# Altium integrated library Renesas Microcontroller M16C.IntLib: 423 symbols (part 7 of 30)
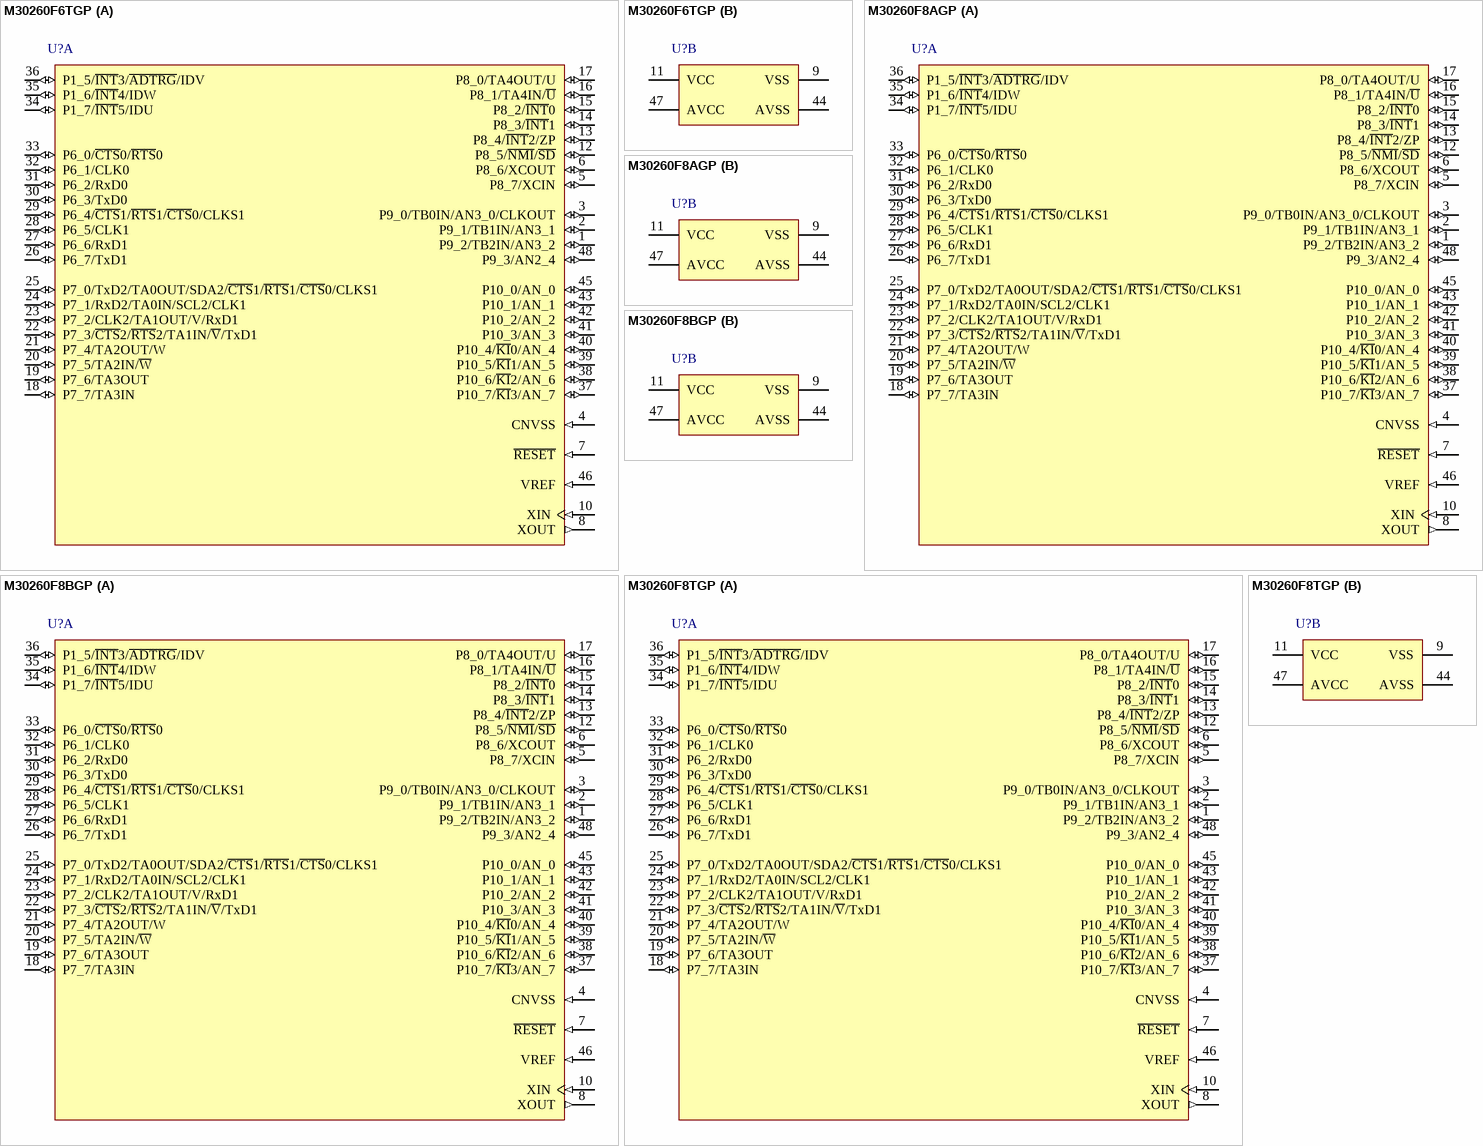
[diagram p192: symbols M30260F6TGP to M30260F8TGP]

## M30260F8TGP
designator U?
Flash Memory M16C/Tiny Series, 26T Group MCU, 64K + 4K ROM, 2K RAM, 48-pin LQFP, Version T; Note: Set bits PACR2 to PACR0 in PACR register.  If PACR register isn't set up, input & output function of some pins disabled.; Published: 28-Aug-2009; DatasheetVersion: Rev.2.00, Feb-2007; PackageVersion: Oct-2005; PackageReference: PLQP0048KB-A; Publisher: Altium Limited; PackageDescription: 48-Pin Plastic Low Profile QFP, 7 x 7 x 1.4 mm Body, 0.5 mm Pitch; Supplier 1: Digi-Key; Supplier Part Number 1: M30260F8TGP-ND; Code_JEITA: P-LQFP48-7x7-0.50; Code_IPC: SQFP50P900X900-48; ComponentLink1Description: Manufacturer Link; ComponentLink1URL: http://sg.renesas.com/fmwk.jsp?cnt=m16c_family_landing.jsp&fp=/products/mpumcu/m16c_family/; ComponentLink2Description: Datasheet; ComponentLink2URL: http://documentation.renesas.com/eng/products/mpumcu/rej09b0202_16c26ahm.pdf; ComponentLink3Description: Packaging Specification; ComponentLink3URL: http://sg.renesas.com/media/products/common_info/package/pdf/ic/code/plqp0048kb_a.pdf
footprint PLQP0048KB-A_N (Shrink QFP, 48-Leads, Body 7x7mm, Pitch 0.5mm, IPC Medium Density)
footprint PLQP0048KB-A_L (Shrink QFP, 48-Leads, Body 7x7mm, Pitch 0.5mm, IPC High Density)
footprint PLQP0048KB-A_M (Shrink QFP, 48-Leads, Body 7x7mm, Pitch 0.5mm, IPC Low Density)
part A pins: 1 P9_2/TB2IN/AN3_2 (io), 2 P9_1/TB1IN/AN3_1 (io), 3 P9_0/TB0IN/AN3_0/CLKOUT (io), 4 CNVSS (in), 5 P8_7/XCIN (io), 6 P8_6/XCOUT (io), 7 ~{RESET} (in), 8 XOUT (out), 10 XIN (in), 12 P8_5/~{NMI}/~{SD} (io), 13 P8_4/~{INT}2/ZP (io), 14 P8_3/~{INT}1 (io), 15 P8_2/~{INT}0 (io), 16 P8_1/TA4IN/~{U} (io), 17 P8_0/TA4OUT/U (io), 18 P7_7/TA3IN (io), 19 P7_6/TA3OUT (io), 20 P7_5/TA2IN/~{W} (io), 21 P7_4/TA2OUT/W (io), 22 P7_3/~{CTS}2/~{RTS}2/TA1IN/~{V}/TxD1 (io), 23 P7_2/CLK2/TA1OUT/V/RxD1 (io), 24 P7_1/RxD2/TA0IN/SCL2/CLK1 (io), 25 P7_0/TxD2/TA0OUT/SDA2/~{CTS}1/~{RTS}1/~{CTS}0/CLKS1 (io), 26 P6_7/TxD1 (io), 27 P6_6/RxD1 (io), 28 P6_5/CLK1 (io), 29 P6_4/~{CTS}1/~{RTS}1/~{CTS}0/CLKS1 (io), 30 P6_3/TxD0 (io), 31 P6_2/RxD0 (io), 32 P6_1/CLK0 (io), 33 P6_0/~{CTS}0/~{RTS}0 (io), 34 P1_7/~{INT}5/IDU (io), 35 P1_6/~{INT}4/IDW (io), 36 P1_5/~{INT}3/~{ADTRG}/IDV (io), 37 P10_7/~{KI}3/AN_7 (io), 38 P10_6/~{KI}2/AN_6 (io), 39 P10_5/~{KI}1/AN_5 (io), 40 P10_4/~{KI}0/AN_4 (io), 41 P10_3/AN_3 (io), 42 P10_2/AN_2 (io), 43 P10_1/AN_1 (io), 45 P10_0/AN_0 (io), 46 VREF (in), 48 P9_3/AN2_4 (io)
part B pins: 9 VSS (power), 11 VCC (power), 44 AVSS (power), 47 AVCC (power)

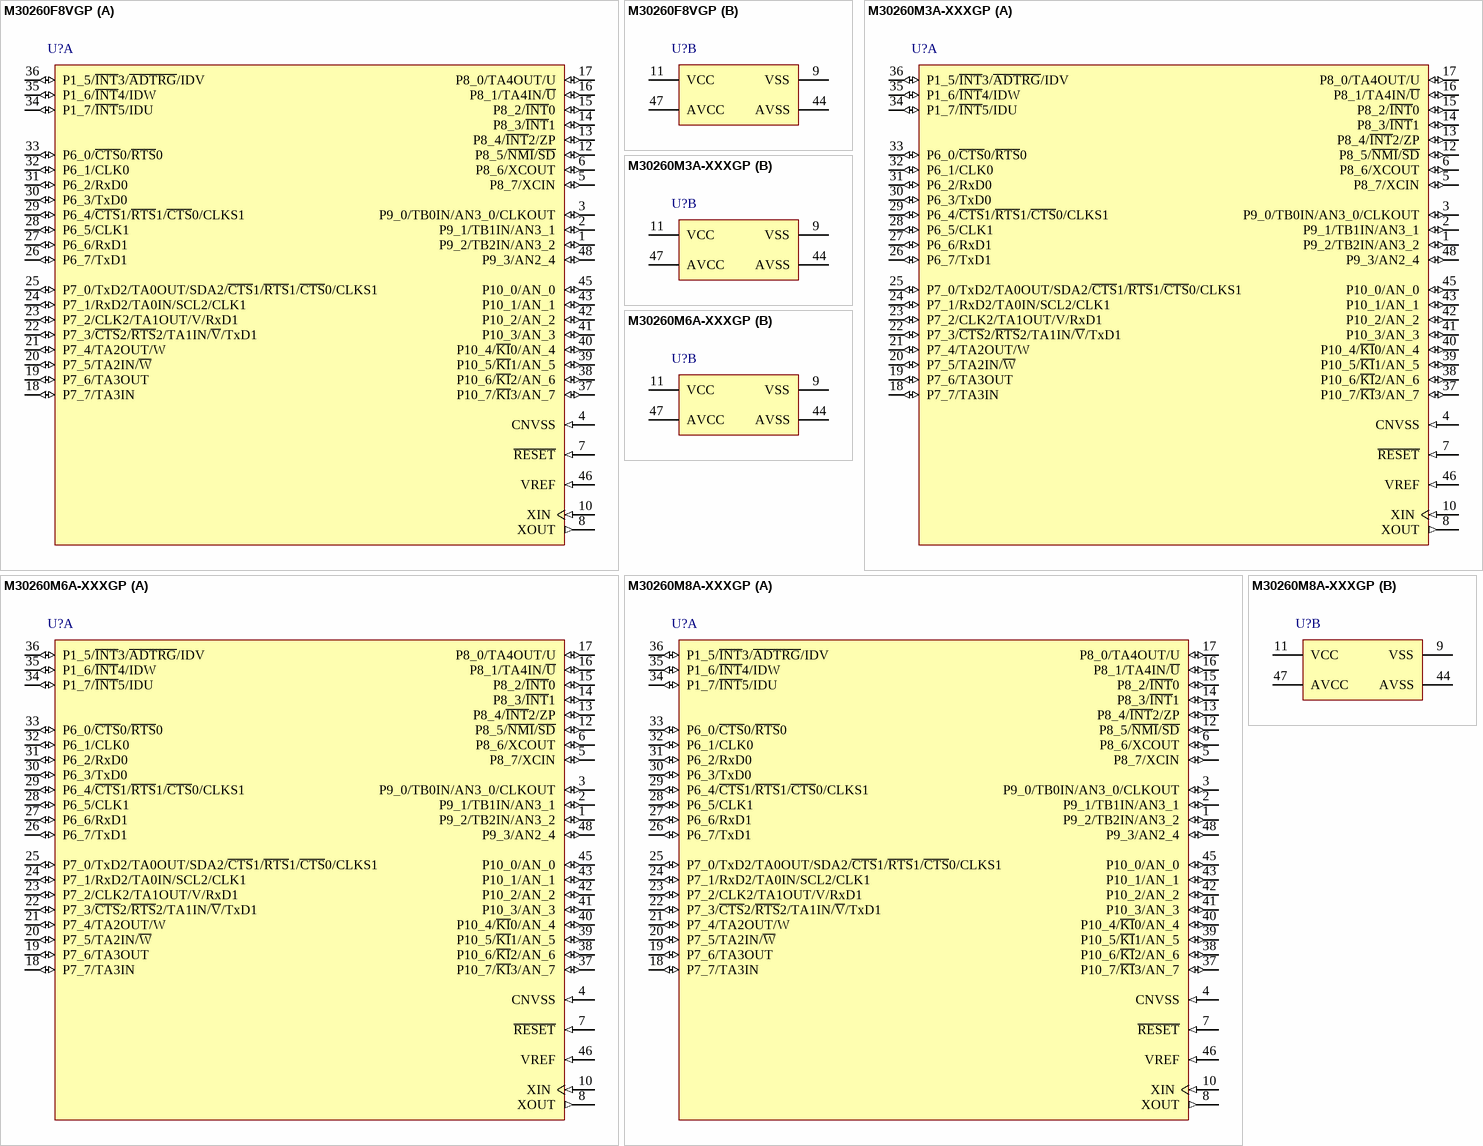
[diagram p39: symbols M30260F8VGP to M30260M8A-XXXGP]

## M30260F8VGP
designator U?
Flash Memory M16C/Tiny Series, 26T Group MCU, 64K + 4K ROM, 2K RAM, 48-pin LQFP, Version V; Note: Set bits PACR2 to PACR0 in PACR register.  If PACR register isn't set up, input & output function of some pins disabled.; Published: 28-Aug-2009; DatasheetVersion: Rev.2.00, Feb-2007; PackageVersion: Oct-2005; PackageReference: PLQP0048KB-A; Publisher: Altium Limited; PackageDescription: 48-Pin Plastic Low Profile QFP, 7 x 7 x 1.4 mm Body, 0.5 mm Pitch; Code_JEITA: P-LQFP48-7x7-0.50; Code_IPC: SQFP50P900X900-48; ComponentLink1Description: Manufacturer Link; ComponentLink1URL: http://sg.renesas.com/fmwk.jsp?cnt=m16c_family_landing.jsp&fp=/products/mpumcu/m16c_family/; ComponentLink2Description: Datasheet; ComponentLink2URL: http://documentation.renesas.com/eng/products/mpumcu/rej09b0202_16c26ahm.pdf; ComponentLink3Description: Packaging Specification; ComponentLink3URL: http://sg.renesas.com/media/products/common_info/package/pdf/ic/code/plqp0048kb_a.pdf
footprint PLQP0048KB-A_N (Shrink QFP, 48-Leads, Body 7x7mm, Pitch 0.5mm, IPC Medium Density)
footprint PLQP0048KB-A_L (Shrink QFP, 48-Leads, Body 7x7mm, Pitch 0.5mm, IPC High Density)
footprint PLQP0048KB-A_M (Shrink QFP, 48-Leads, Body 7x7mm, Pitch 0.5mm, IPC Low Density)
part A pins: 1 P9_2/TB2IN/AN3_2 (io), 2 P9_1/TB1IN/AN3_1 (io), 3 P9_0/TB0IN/AN3_0/CLKOUT (io), 4 CNVSS (in), 5 P8_7/XCIN (io), 6 P8_6/XCOUT (io), 7 ~{RESET} (in), 8 XOUT (out), 10 XIN (in), 12 P8_5/~{NMI}/~{SD} (io), 13 P8_4/~{INT}2/ZP (io), 14 P8_3/~{INT}1 (io), 15 P8_2/~{INT}0 (io), 16 P8_1/TA4IN/~{U} (io), 17 P8_0/TA4OUT/U (io), 18 P7_7/TA3IN (io), 19 P7_6/TA3OUT (io), 20 P7_5/TA2IN/~{W} (io), 21 P7_4/TA2OUT/W (io), 22 P7_3/~{CTS}2/~{RTS}2/TA1IN/~{V}/TxD1 (io), 23 P7_2/CLK2/TA1OUT/V/RxD1 (io), 24 P7_1/RxD2/TA0IN/SCL2/CLK1 (io), 25 P7_0/TxD2/TA0OUT/SDA2/~{CTS}1/~{RTS}1/~{CTS}0/CLKS1 (io), 26 P6_7/TxD1 (io), 27 P6_6/RxD1 (io), 28 P6_5/CLK1 (io), 29 P6_4/~{CTS}1/~{RTS}1/~{CTS}0/CLKS1 (io), 30 P6_3/TxD0 (io), 31 P6_2/RxD0 (io), 32 P6_1/CLK0 (io), 33 P6_0/~{CTS}0/~{RTS}0 (io), 34 P1_7/~{INT}5/IDU (io), 35 P1_6/~{INT}4/IDW (io), 36 P1_5/~{INT}3/~{ADTRG}/IDV (io), 37 P10_7/~{KI}3/AN_7 (io), 38 P10_6/~{KI}2/AN_6 (io), 39 P10_5/~{KI}1/AN_5 (io), 40 P10_4/~{KI}0/AN_4 (io), 41 P10_3/AN_3 (io), 42 P10_2/AN_2 (io), 43 P10_1/AN_1 (io), 45 P10_0/AN_0 (io), 46 VREF (in), 48 P9_3/AN2_4 (io)
part B pins: 9 VSS (power), 11 VCC (power), 44 AVSS (power), 47 AVCC (power)

## M30260M3A-XXXGP
designator U?
Flash Memory M16C/Tiny Series, 26A Group MCU, 24K ROM, 1K RAM, 48-pin LQFP; Note: Set bits PACR2 to PACR0 in PACR register.  If PACR register isn't set up, input & output function of some pins disabled.; Published: 28-Aug-2009; DatasheetVersion: Rev.2.00, Feb-2007; PackageVersion: Oct-2005; PackageReference: PLQP0048KB-A; Publisher: Altium Limited; PackageDescription: 48-Pin Plastic Low Profile QFP, 7 x 7 x 1.4 mm Body, 0.5 mm Pitch; Code_JEITA: P-LQFP48-7x7-0.50; Code_IPC: SQFP50P900X900-48; ComponentLink1Description: Manufacturer Link; ComponentLink1URL: http://sg.renesas.com/fmwk.jsp?cnt=m16c_family_landing.jsp&fp=/products/mpumcu/m16c_family/; ComponentLink2Description: Datasheet; ComponentLink2URL: http://documentation.renesas.com/eng/products/mpumcu/rej09b0202_16c26ahm.pdf; ComponentLink3Description: Packaging Specification; ComponentLink3URL: http://sg.renesas.com/media/products/common_info/package/pdf/ic/code/plqp0048kb_a.pdf
footprint PLQP0048KB-A_N (Shrink QFP, 48-Leads, Body 7x7mm, Pitch 0.5mm, IPC Medium Density)
footprint PLQP0048KB-A_L (Shrink QFP, 48-Leads, Body 7x7mm, Pitch 0.5mm, IPC High Density)
footprint PLQP0048KB-A_M (Shrink QFP, 48-Leads, Body 7x7mm, Pitch 0.5mm, IPC Low Density)
part A pins: 1 P9_2/TB2IN/AN3_2 (io), 2 P9_1/TB1IN/AN3_1 (io), 3 P9_0/TB0IN/AN3_0/CLKOUT (io), 4 CNVSS (in), 5 P8_7/XCIN (io), 6 P8_6/XCOUT (io), 7 ~{RESET} (in), 8 XOUT (out), 10 XIN (in), 12 P8_5/~{NMI}/~{SD} (io), 13 P8_4/~{INT}2/ZP (io), 14 P8_3/~{INT}1 (io), 15 P8_2/~{INT}0 (io), 16 P8_1/TA4IN/~{U} (io), 17 P8_0/TA4OUT/U (io), 18 P7_7/TA3IN (io), 19 P7_6/TA3OUT (io), 20 P7_5/TA2IN/~{W} (io), 21 P7_4/TA2OUT/W (io), 22 P7_3/~{CTS}2/~{RTS}2/TA1IN/~{V}/TxD1 (io), 23 P7_2/CLK2/TA1OUT/V/RxD1 (io), 24 P7_1/RxD2/TA0IN/SCL2/CLK1 (io), 25 P7_0/TxD2/TA0OUT/SDA2/~{CTS}1/~{RTS}1/~{CTS}0/CLKS1 (io), 26 P6_7/TxD1 (io), 27 P6_6/RxD1 (io), 28 P6_5/CLK1 (io), 29 P6_4/~{CTS}1/~{RTS}1/~{CTS}0/CLKS1 (io), 30 P6_3/TxD0 (io), 31 P6_2/RxD0 (io), 32 P6_1/CLK0 (io), 33 P6_0/~{CTS}0/~{RTS}0 (io), 34 P1_7/~{INT}5/IDU (io), 35 P1_6/~{INT}4/IDW (io), 36 P1_5/~{INT}3/~{ADTRG}/IDV (io), 37 P10_7/~{KI}3/AN_7 (io), 38 P10_6/~{KI}2/AN_6 (io), 39 P10_5/~{KI}1/AN_5 (io), 40 P10_4/~{KI}0/AN_4 (io), 41 P10_3/AN_3 (io), 42 P10_2/AN_2 (io), 43 P10_1/AN_1 (io), 45 P10_0/AN_0 (io), 46 VREF (in), 48 P9_3/AN2_4 (io)
part B pins: 9 VSS (power), 11 VCC (power), 44 AVSS (power), 47 AVCC (power)

## M30260M6A-XXXGP
designator U?
Flash Memory M16C/Tiny Series, 26A Group MCU, 48K ROM, 2K RAM, 48-pin LQFP; Note: Set bits PACR2 to PACR0 in PACR register.  If PACR register isn't set up, input & output function of some pins disabled.; Published: 28-Aug-2009; DatasheetVersion: Rev.2.00, Feb-2007; PackageVersion: Oct-2005; PackageReference: PLQP0048KB-A; Publisher: Altium Limited; PackageDescription: 48-Pin Plastic Low Profile QFP, 7 x 7 x 1.4 mm Body, 0.5 mm Pitch; Code_JEITA: P-LQFP48-7x7-0.50; Code_IPC: SQFP50P900X900-48; ComponentLink1Description: Manufacturer Link; ComponentLink1URL: http://sg.renesas.com/fmwk.jsp?cnt=m16c_family_landing.jsp&fp=/products/mpumcu/m16c_family/; ComponentLink2Description: Datasheet; ComponentLink2URL: http://documentation.renesas.com/eng/products/mpumcu/rej09b0202_16c26ahm.pdf; ComponentLink3Description: Packaging Specification; ComponentLink3URL: http://sg.renesas.com/media/products/common_info/package/pdf/ic/code/plqp0048kb_a.pdf
footprint PLQP0048KB-A_N (Shrink QFP, 48-Leads, Body 7x7mm, Pitch 0.5mm, IPC Medium Density)
footprint PLQP0048KB-A_L (Shrink QFP, 48-Leads, Body 7x7mm, Pitch 0.5mm, IPC High Density)
footprint PLQP0048KB-A_M (Shrink QFP, 48-Leads, Body 7x7mm, Pitch 0.5mm, IPC Low Density)
part A pins: 1 P9_2/TB2IN/AN3_2 (io), 2 P9_1/TB1IN/AN3_1 (io), 3 P9_0/TB0IN/AN3_0/CLKOUT (io), 4 CNVSS (in), 5 P8_7/XCIN (io), 6 P8_6/XCOUT (io), 7 ~{RESET} (in), 8 XOUT (out), 10 XIN (in), 12 P8_5/~{NMI}/~{SD} (io), 13 P8_4/~{INT}2/ZP (io), 14 P8_3/~{INT}1 (io), 15 P8_2/~{INT}0 (io), 16 P8_1/TA4IN/~{U} (io), 17 P8_0/TA4OUT/U (io), 18 P7_7/TA3IN (io), 19 P7_6/TA3OUT (io), 20 P7_5/TA2IN/~{W} (io), 21 P7_4/TA2OUT/W (io), 22 P7_3/~{CTS}2/~{RTS}2/TA1IN/~{V}/TxD1 (io), 23 P7_2/CLK2/TA1OUT/V/RxD1 (io), 24 P7_1/RxD2/TA0IN/SCL2/CLK1 (io), 25 P7_0/TxD2/TA0OUT/SDA2/~{CTS}1/~{RTS}1/~{CTS}0/CLKS1 (io), 26 P6_7/TxD1 (io), 27 P6_6/RxD1 (io), 28 P6_5/CLK1 (io), 29 P6_4/~{CTS}1/~{RTS}1/~{CTS}0/CLKS1 (io), 30 P6_3/TxD0 (io), 31 P6_2/RxD0 (io), 32 P6_1/CLK0 (io), 33 P6_0/~{CTS}0/~{RTS}0 (io), 34 P1_7/~{INT}5/IDU (io), 35 P1_6/~{INT}4/IDW (io), 36 P1_5/~{INT}3/~{ADTRG}/IDV (io), 37 P10_7/~{KI}3/AN_7 (io), 38 P10_6/~{KI}2/AN_6 (io), 39 P10_5/~{KI}1/AN_5 (io), 40 P10_4/~{KI}0/AN_4 (io), 41 P10_3/AN_3 (io), 42 P10_2/AN_2 (io), 43 P10_1/AN_1 (io), 45 P10_0/AN_0 (io), 46 VREF (in), 48 P9_3/AN2_4 (io)
part B pins: 9 VSS (power), 11 VCC (power), 44 AVSS (power), 47 AVCC (power)

## M30260M8A-XXXGP
designator U?
Flash Memory M16C/Tiny Series, 26A Group MCU, 64K ROM, 2K RAM, 48-pin LQFP; Note: Set bits PACR2 to PACR0 in PACR register.  If PACR register isn't set up, input & output function of some pins disabled.; Published: 28-Aug-2009; DatasheetVersion: Rev.2.00, Feb-2007; PackageVersion: Oct-2005; PackageReference: PLQP0048KB-A; Publisher: Altium Limited; PackageDescription: 48-Pin Plastic Low Profile QFP, 7 x 7 x 1.4 mm Body, 0.5 mm Pitch; Code_JEITA: P-LQFP48-7x7-0.50; Code_IPC: SQFP50P900X900-48; ComponentLink1Description: Manufacturer Link; ComponentLink1URL: http://sg.renesas.com/fmwk.jsp?cnt=m16c_family_landing.jsp&fp=/products/mpumcu/m16c_family/; ComponentLink2Description: Datasheet; ComponentLink2URL: http://documentation.renesas.com/eng/products/mpumcu/rej09b0202_16c26ahm.pdf; ComponentLink3Description: Packaging Specification; ComponentLink3URL: http://sg.renesas.com/media/products/common_info/package/pdf/ic/code/plqp0048kb_a.pdf
footprint PLQP0048KB-A_N (Shrink QFP, 48-Leads, Body 7x7mm, Pitch 0.5mm, IPC Medium Density)
footprint PLQP0048KB-A_L (Shrink QFP, 48-Leads, Body 7x7mm, Pitch 0.5mm, IPC High Density)
footprint PLQP0048KB-A_M (Shrink QFP, 48-Leads, Body 7x7mm, Pitch 0.5mm, IPC Low Density)
part A pins: 1 P9_2/TB2IN/AN3_2 (io), 2 P9_1/TB1IN/AN3_1 (io), 3 P9_0/TB0IN/AN3_0/CLKOUT (io), 4 CNVSS (in), 5 P8_7/XCIN (io), 6 P8_6/XCOUT (io), 7 ~{RESET} (in), 8 XOUT (out), 10 XIN (in), 12 P8_5/~{NMI}/~{SD} (io), 13 P8_4/~{INT}2/ZP (io), 14 P8_3/~{INT}1 (io), 15 P8_2/~{INT}0 (io), 16 P8_1/TA4IN/~{U} (io), 17 P8_0/TA4OUT/U (io), 18 P7_7/TA3IN (io), 19 P7_6/TA3OUT (io), 20 P7_5/TA2IN/~{W} (io), 21 P7_4/TA2OUT/W (io), 22 P7_3/~{CTS}2/~{RTS}2/TA1IN/~{V}/TxD1 (io), 23 P7_2/CLK2/TA1OUT/V/RxD1 (io), 24 P7_1/RxD2/TA0IN/SCL2/CLK1 (io), 25 P7_0/TxD2/TA0OUT/SDA2/~{CTS}1/~{RTS}1/~{CTS}0/CLKS1 (io), 26 P6_7/TxD1 (io), 27 P6_6/RxD1 (io), 28 P6_5/CLK1 (io), 29 P6_4/~{CTS}1/~{RTS}1/~{CTS}0/CLKS1 (io), 30 P6_3/TxD0 (io), 31 P6_2/RxD0 (io), 32 P6_1/CLK0 (io), 33 P6_0/~{CTS}0/~{RTS}0 (io), 34 P1_7/~{INT}5/IDU (io), 35 P1_6/~{INT}4/IDW (io), 36 P1_5/~{INT}3/~{ADTRG}/IDV (io), 37 P10_7/~{KI}3/AN_7 (io), 38 P10_6/~{KI}2/AN_6 (io), 39 P10_5/~{KI}1/AN_5 (io), 40 P10_4/~{KI}0/AN_4 (io), 41 P10_3/AN_3 (io), 42 P10_2/AN_2 (io), 43 P10_1/AN_1 (io), 45 P10_0/AN_0 (io), 46 VREF (in), 48 P9_3/AN2_4 (io)
part B pins: 9 VSS (power), 11 VCC (power), 44 AVSS (power), 47 AVCC (power)

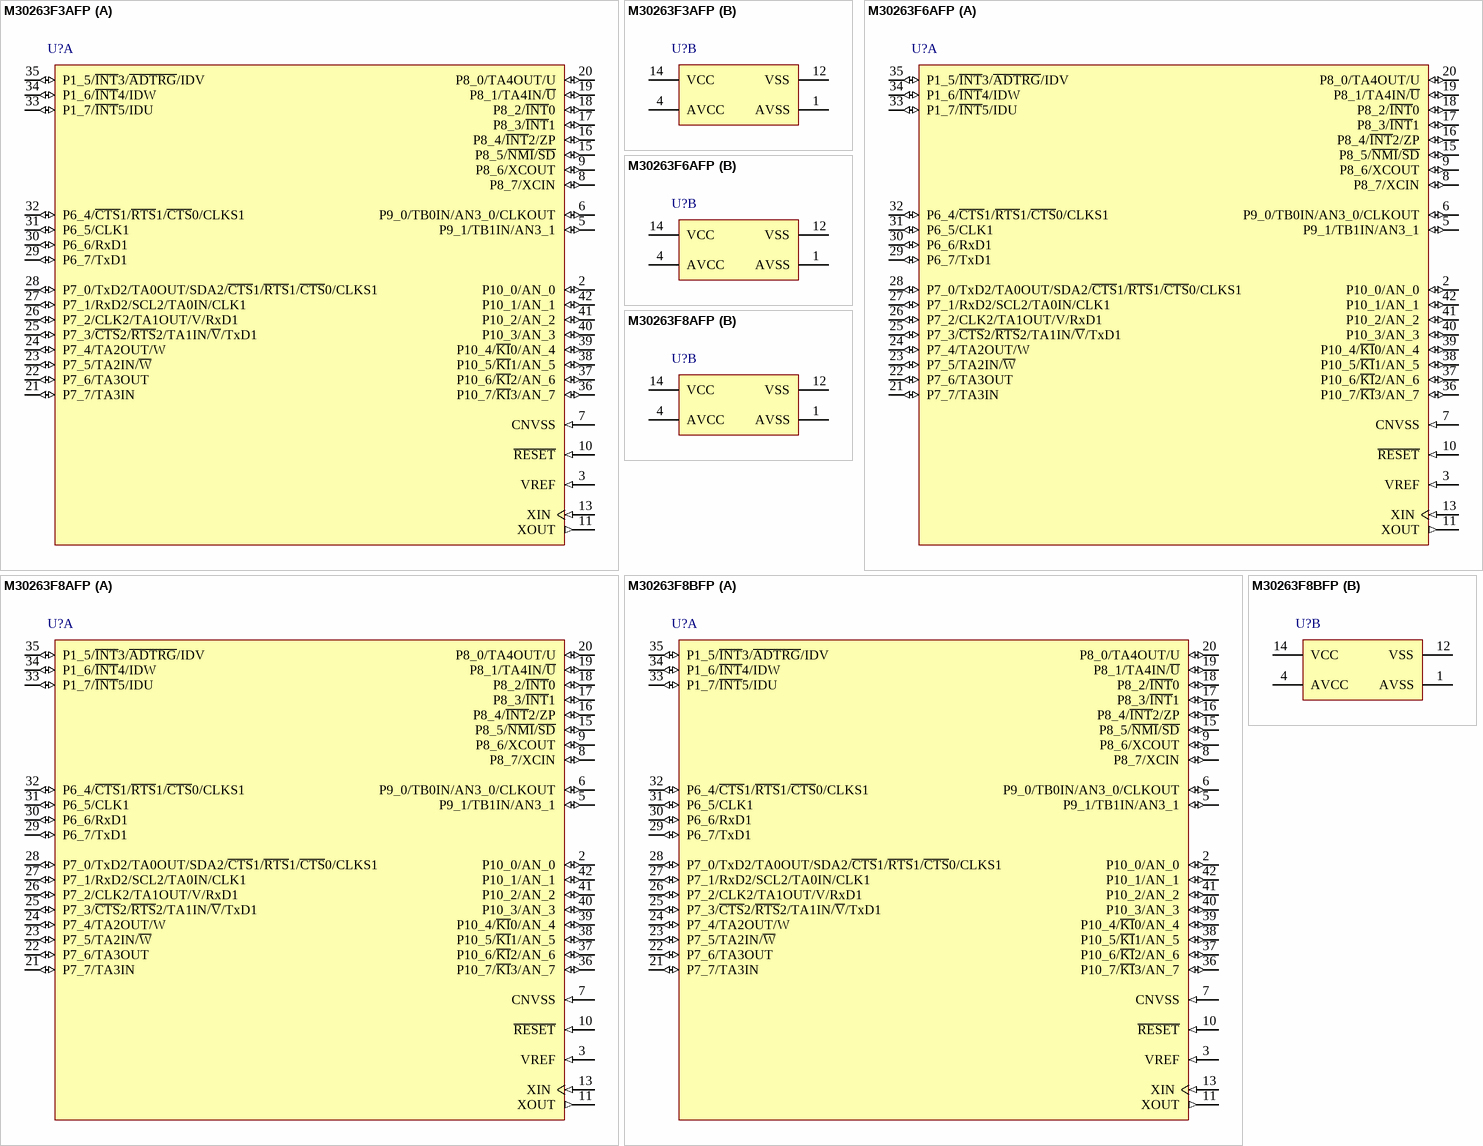
[diagram p40: symbols M30263F3AFP to M30263F8BFP]

## M30263F3AFP
designator U?
Flash Memory M16C/Tiny Series, 26A Group MCU, 24K + 4K ROM, 1K RAM, 42-pin SSOP; Note: Set bits PACR2 to PACR0 in PACR register.  If PACR register isn't set up, input & output function of some pins disabled.; Published: 28-Aug-2009; DatasheetVersion: Rev.2.00, Feb-2007; PackageVersion: Sep-2005; PackageReference: PRSP0042GA-B; Publisher: Altium Limited; PackageDescription: 42-Pin Plastic Shrink SOP, 17.5 x 8.4 mm Body, 0.8 mm Pitch; Code_JEITA: P-SSOP42-8.4x17.5-0.80; ComponentLink1Description: Manufacturer Link; ComponentLink1URL: http://sg.renesas.com/fmwk.jsp?cnt=m16c_family_landing.jsp&fp=/products/mpumcu/m16c_family/; ComponentLink2Description: Datasheet; ComponentLink2URL: http://documentation.renesas.com/eng/products/mpumcu/rej09b0202_16c26ahm.pdf; ComponentLink3Description: Packaging Specification; ComponentLink3URL: http://sg.renesas.com/media/products/common_info/package/pdf/ic/code/prsp0042ga_b.pdf
footprint PRSP0042GA-B_N (SOP, 42-Leads, Body 17.5x8.4mm, Pitch 0.8mm, IPC Medium Density)
footprint PRSP0042GA-B_L (SOP, 42-Leads, Body 17.5x8.4mm, Pitch 0.8mm, IPC High Density)
footprint PRSP0042GA-B_M (SOP, 42-Leads, Body 17.5x8.4mm, Pitch 0.8mm, IPC Low Density)
part A pins: 2 P10_0/AN_0 (io), 3 VREF (in), 5 P9_1/TB1IN/AN3_1 (io), 6 P9_0/TB0IN/AN3_0/CLKOUT (io), 7 CNVSS (in), 8 P8_7/XCIN (io), 9 P8_6/XCOUT (io), 10 ~{RESET} (in), 11 XOUT (out), 13 XIN (in), 15 P8_5/~{NMI}/~{SD} (io), 16 P8_4/~{INT}2/ZP (io), 17 P8_3/~{INT}1 (io), 18 P8_2/~{INT}0 (io), 19 P8_1/TA4IN/~{U} (io), 20 P8_0/TA4OUT/U (io), 21 P7_7/TA3IN (io), 22 P7_6/TA3OUT (io), 23 P7_5/TA2IN/~{W} (io), 24 P7_4/TA2OUT/W (io), 25 P7_3/~{CTS}2/~{RTS}2/TA1IN/~{V}/TxD1 (io), 26 P7_2/CLK2/TA1OUT/V/RxD1 (io), 27 P7_1/RxD2/SCL2/TA0IN/CLK1 (io), 28 P7_0/TxD2/TA0OUT/SDA2/~{CTS}1/~{RTS}1/~{CTS}0/CLKS1 (io), 29 P6_7/TxD1 (io), 30 P6_6/RxD1 (io), 31 P6_5/CLK1 (io), 32 P6_4/~{CTS}1/~{RTS}1/~{CTS}0/CLKS1 (io), 33 P1_7/~{INT}5/IDU (io), 34 P1_6/~{INT}4/IDW (io), 35 P1_5/~{INT}3/~{ADTRG}/IDV (io), 36 P10_7/~{KI}3/AN_7 (io), 37 P10_6/~{KI}2/AN_6 (io), 38 P10_5/~{KI}1/AN_5 (io), 39 P10_4/~{KI}0/AN_4 (io), 40 P10_3/AN_3 (io), 41 P10_2/AN_2 (io), 42 P10_1/AN_1 (io)
part B pins: 1 AVSS (power), 4 AVCC (power), 12 VSS (power), 14 VCC (power)

## M30263F6AFP
designator U?
Flash Memory M16C/Tiny Series, 26A Group MCU, 48K + 4K ROM, 2K RAM, 42-pin SSOP; Note: Set bits PACR2 to PACR0 in PACR register.  If PACR register isn't set up, input & output function of some pins disabled.; Published: 28-Aug-2009; DatasheetVersion: Rev.2.00, Feb-2007; PackageVersion: Sep-2005; PackageReference: PRSP0042GA-B; Publisher: Altium Limited; PackageDescription: 42-Pin Plastic Shrink SOP, 17.5 x 8.4 mm Body, 0.8 mm Pitch; Code_JEITA: P-SSOP42-8.4x17.5-0.80; ComponentLink1Description: Manufacturer Link; ComponentLink1URL: http://sg.renesas.com/fmwk.jsp?cnt=m16c_family_landing.jsp&fp=/products/mpumcu/m16c_family/; ComponentLink2Description: Datasheet; ComponentLink2URL: http://documentation.renesas.com/eng/products/mpumcu/rej09b0202_16c26ahm.pdf; ComponentLink3Description: Packaging Specification; ComponentLink3URL: http://sg.renesas.com/media/products/common_info/package/pdf/ic/code/prsp0042ga_b.pdf
footprint PRSP0042GA-B_N (SOP, 42-Leads, Body 17.5x8.4mm, Pitch 0.8mm, IPC Medium Density)
footprint PRSP0042GA-B_L (SOP, 42-Leads, Body 17.5x8.4mm, Pitch 0.8mm, IPC High Density)
footprint PRSP0042GA-B_M (SOP, 42-Leads, Body 17.5x8.4mm, Pitch 0.8mm, IPC Low Density)
part A pins: 2 P10_0/AN_0 (io), 3 VREF (in), 5 P9_1/TB1IN/AN3_1 (io), 6 P9_0/TB0IN/AN3_0/CLKOUT (io), 7 CNVSS (in), 8 P8_7/XCIN (io), 9 P8_6/XCOUT (io), 10 ~{RESET} (in), 11 XOUT (out), 13 XIN (in), 15 P8_5/~{NMI}/~{SD} (io), 16 P8_4/~{INT}2/ZP (io), 17 P8_3/~{INT}1 (io), 18 P8_2/~{INT}0 (io), 19 P8_1/TA4IN/~{U} (io), 20 P8_0/TA4OUT/U (io), 21 P7_7/TA3IN (io), 22 P7_6/TA3OUT (io), 23 P7_5/TA2IN/~{W} (io), 24 P7_4/TA2OUT/W (io), 25 P7_3/~{CTS}2/~{RTS}2/TA1IN/~{V}/TxD1 (io), 26 P7_2/CLK2/TA1OUT/V/RxD1 (io), 27 P7_1/RxD2/SCL2/TA0IN/CLK1 (io), 28 P7_0/TxD2/TA0OUT/SDA2/~{CTS}1/~{RTS}1/~{CTS}0/CLKS1 (io), 29 P6_7/TxD1 (io), 30 P6_6/RxD1 (io), 31 P6_5/CLK1 (io), 32 P6_4/~{CTS}1/~{RTS}1/~{CTS}0/CLKS1 (io), 33 P1_7/~{INT}5/IDU (io), 34 P1_6/~{INT}4/IDW (io), 35 P1_5/~{INT}3/~{ADTRG}/IDV (io), 36 P10_7/~{KI}3/AN_7 (io), 37 P10_6/~{KI}2/AN_6 (io), 38 P10_5/~{KI}1/AN_5 (io), 39 P10_4/~{KI}0/AN_4 (io), 40 P10_3/AN_3 (io), 41 P10_2/AN_2 (io), 42 P10_1/AN_1 (io)
part B pins: 1 AVSS (power), 4 AVCC (power), 12 VSS (power), 14 VCC (power)

## M30263F8AFP
designator U?
Flash Memory M16C/Tiny Series, 26A Group MCU, 64K + 4K ROM, 2K RAM, 42-pin SSOP; Note: Set bits PACR2 to PACR0 in PACR register.  If PACR register isn't set up, input & output function of some pins disabled.; Published: 28-Aug-2009; DatasheetVersion: Rev.2.00, Feb-2007; PackageVersion: Sep-2005; PackageReference: PRSP0042GA-B; Publisher: Altium Limited; PackageDescription: 42-Pin Plastic Shrink SOP, 17.5 x 8.4 mm Body, 0.8 mm Pitch; Code_JEITA: P-SSOP42-8.4x17.5-0.80; ComponentLink1Description: Manufacturer Link; ComponentLink1URL: http://sg.renesas.com/fmwk.jsp?cnt=m16c_family_landing.jsp&fp=/products/mpumcu/m16c_family/; ComponentLink2Description: Datasheet; ComponentLink2URL: http://documentation.renesas.com/eng/products/mpumcu/rej09b0202_16c26ahm.pdf; ComponentLink3Description: Packaging Specification; ComponentLink3URL: http://sg.renesas.com/media/products/common_info/package/pdf/ic/code/prsp0042ga_b.pdf
footprint PRSP0042GA-B_N (SOP, 42-Leads, Body 17.5x8.4mm, Pitch 0.8mm, IPC Medium Density)
footprint PRSP0042GA-B_L (SOP, 42-Leads, Body 17.5x8.4mm, Pitch 0.8mm, IPC High Density)
footprint PRSP0042GA-B_M (SOP, 42-Leads, Body 17.5x8.4mm, Pitch 0.8mm, IPC Low Density)
part A pins: 2 P10_0/AN_0 (io), 3 VREF (in), 5 P9_1/TB1IN/AN3_1 (io), 6 P9_0/TB0IN/AN3_0/CLKOUT (io), 7 CNVSS (in), 8 P8_7/XCIN (io), 9 P8_6/XCOUT (io), 10 ~{RESET} (in), 11 XOUT (out), 13 XIN (in), 15 P8_5/~{NMI}/~{SD} (io), 16 P8_4/~{INT}2/ZP (io), 17 P8_3/~{INT}1 (io), 18 P8_2/~{INT}0 (io), 19 P8_1/TA4IN/~{U} (io), 20 P8_0/TA4OUT/U (io), 21 P7_7/TA3IN (io), 22 P7_6/TA3OUT (io), 23 P7_5/TA2IN/~{W} (io), 24 P7_4/TA2OUT/W (io), 25 P7_3/~{CTS}2/~{RTS}2/TA1IN/~{V}/TxD1 (io), 26 P7_2/CLK2/TA1OUT/V/RxD1 (io), 27 P7_1/RxD2/SCL2/TA0IN/CLK1 (io), 28 P7_0/TxD2/TA0OUT/SDA2/~{CTS}1/~{RTS}1/~{CTS}0/CLKS1 (io), 29 P6_7/TxD1 (io), 30 P6_6/RxD1 (io), 31 P6_5/CLK1 (io), 32 P6_4/~{CTS}1/~{RTS}1/~{CTS}0/CLKS1 (io), 33 P1_7/~{INT}5/IDU (io), 34 P1_6/~{INT}4/IDW (io), 35 P1_5/~{INT}3/~{ADTRG}/IDV (io), 36 P10_7/~{KI}3/AN_7 (io), 37 P10_6/~{KI}2/AN_6 (io), 38 P10_5/~{KI}1/AN_5 (io), 39 P10_4/~{KI}0/AN_4 (io), 40 P10_3/AN_3 (io), 41 P10_2/AN_2 (io), 42 P10_1/AN_1 (io)
part B pins: 1 AVSS (power), 4 AVCC (power), 12 VSS (power), 14 VCC (power)

## M30263F8BFP
designator U?
Flash Memory M16C/Tiny Series, 26B Group MCU, 64K + 4K ROM, 2K RAM, 42-pin SSOP; Note: Set bits PACR2 to PACR0 in PACR register.  If PACR register isn't set up, input & output function of some pins disabled.; Published: 28-Aug-2009; DatasheetVersion: Rev.2.00, Feb-2007; PackageVersion: Sep-2005; PackageReference: PRSP0042GA-B; Publisher: Altium Limited; PackageDescription: 42-Pin Plastic Shrink SOP, 17.5 x 8.4 mm Body, 0.8 mm Pitch; Code_JEITA: P-SSOP42-8.4x17.5-0.80; ComponentLink1Description: Manufacturer Link; ComponentLink1URL: http://sg.renesas.com/fmwk.jsp?cnt=m16c_family_landing.jsp&fp=/products/mpumcu/m16c_family/; ComponentLink2Description: Datasheet; ComponentLink2URL: http://documentation.renesas.com/eng/products/mpumcu/rej09b0202_16c26ahm.pdf; ComponentLink3Description: Packaging Specification; ComponentLink3URL: http://sg.renesas.com/media/products/common_info/package/pdf/ic/code/prsp0042ga_b.pdf
footprint PRSP0042GA-B_N (SOP, 42-Leads, Body 17.5x8.4mm, Pitch 0.8mm, IPC Medium Density)
footprint PRSP0042GA-B_L (SOP, 42-Leads, Body 17.5x8.4mm, Pitch 0.8mm, IPC High Density)
footprint PRSP0042GA-B_M (SOP, 42-Leads, Body 17.5x8.4mm, Pitch 0.8mm, IPC Low Density)
part A pins: 2 P10_0/AN_0 (io), 3 VREF (in), 5 P9_1/TB1IN/AN3_1 (io), 6 P9_0/TB0IN/AN3_0/CLKOUT (io), 7 CNVSS (in), 8 P8_7/XCIN (io), 9 P8_6/XCOUT (io), 10 ~{RESET} (in), 11 XOUT (out), 13 XIN (in), 15 P8_5/~{NMI}/~{SD} (io), 16 P8_4/~{INT}2/ZP (io), 17 P8_3/~{INT}1 (io), 18 P8_2/~{INT}0 (io), 19 P8_1/TA4IN/~{U} (io), 20 P8_0/TA4OUT/U (io), 21 P7_7/TA3IN (io), 22 P7_6/TA3OUT (io), 23 P7_5/TA2IN/~{W} (io), 24 P7_4/TA2OUT/W (io), 25 P7_3/~{CTS}2/~{RTS}2/TA1IN/~{V}/TxD1 (io), 26 P7_2/CLK2/TA1OUT/V/RxD1 (io), 27 P7_1/RxD2/SCL2/TA0IN/CLK1 (io), 28 P7_0/TxD2/TA0OUT/SDA2/~{CTS}1/~{RTS}1/~{CTS}0/CLKS1 (io), 29 P6_7/TxD1 (io), 30 P6_6/RxD1 (io), 31 P6_5/CLK1 (io), 32 P6_4/~{CTS}1/~{RTS}1/~{CTS}0/CLKS1 (io), 33 P1_7/~{INT}5/IDU (io), 34 P1_6/~{INT}4/IDW (io), 35 P1_5/~{INT}3/~{ADTRG}/IDV (io), 36 P10_7/~{KI}3/AN_7 (io), 37 P10_6/~{KI}2/AN_6 (io), 38 P10_5/~{KI}1/AN_5 (io), 39 P10_4/~{KI}0/AN_4 (io), 40 P10_3/AN_3 (io), 41 P10_2/AN_2 (io), 42 P10_1/AN_1 (io)
part B pins: 1 AVSS (power), 4 AVCC (power), 12 VSS (power), 14 VCC (power)

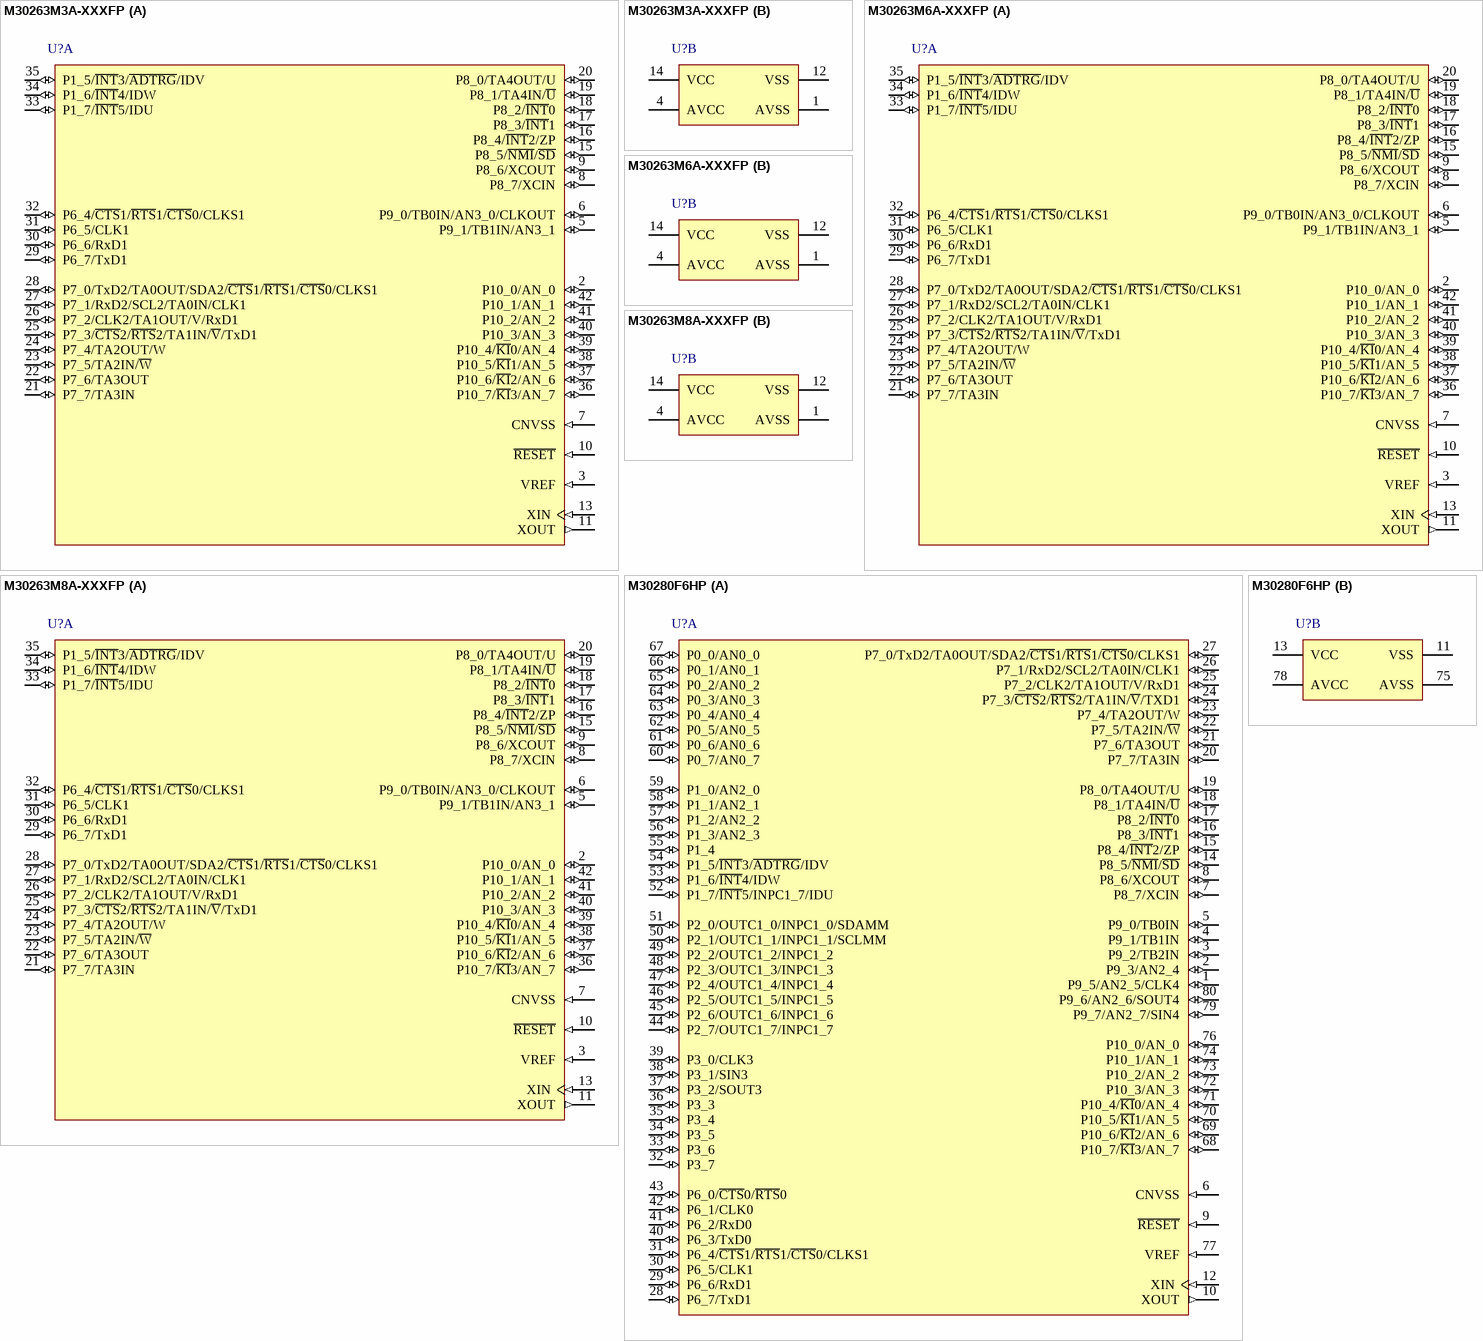
[diagram p41: symbols M30263M3A-XXXFP to M30280F6HP]

## M30263M3A-XXXFP
designator U?
Flash Memory M16C/Tiny Series, 26A Group MCU, 24K ROM, 1K RAM, 42-pin SSOP; Note: Set bits PACR2 to PACR0 in PACR register.  If PACR register isn't set up, input & output function of some pins disabled.; Published: 28-Aug-2009; DatasheetVersion: Rev.2.00, Feb-2007; PackageVersion: Sep-2005; PackageReference: PRSP0042GA-B; Publisher: Altium Limited; PackageDescription: 42-Pin Plastic Shrink SOP, 17.5 x 8.4 mm Body, 0.8 mm Pitch; Code_JEITA: P-SSOP42-8.4x17.5-0.80; ComponentLink1Description: Manufacturer Link; ComponentLink1URL: http://sg.renesas.com/fmwk.jsp?cnt=m16c_family_landing.jsp&fp=/products/mpumcu/m16c_family/; ComponentLink2Description: Datasheet; ComponentLink2URL: http://documentation.renesas.com/eng/products/mpumcu/rej09b0202_16c26ahm.pdf; ComponentLink3Description: Packaging Specification; ComponentLink3URL: http://sg.renesas.com/media/products/common_info/package/pdf/ic/code/prsp0042ga_b.pdf
footprint PRSP0042GA-B_N (SOP, 42-Leads, Body 17.5x8.4mm, Pitch 0.8mm, IPC Medium Density)
footprint PRSP0042GA-B_L (SOP, 42-Leads, Body 17.5x8.4mm, Pitch 0.8mm, IPC High Density)
footprint PRSP0042GA-B_M (SOP, 42-Leads, Body 17.5x8.4mm, Pitch 0.8mm, IPC Low Density)
part A pins: 2 P10_0/AN_0 (io), 3 VREF (in), 5 P9_1/TB1IN/AN3_1 (io), 6 P9_0/TB0IN/AN3_0/CLKOUT (io), 7 CNVSS (in), 8 P8_7/XCIN (io), 9 P8_6/XCOUT (io), 10 ~{RESET} (in), 11 XOUT (out), 13 XIN (in), 15 P8_5/~{NMI}/~{SD} (io), 16 P8_4/~{INT}2/ZP (io), 17 P8_3/~{INT}1 (io), 18 P8_2/~{INT}0 (io), 19 P8_1/TA4IN/~{U} (io), 20 P8_0/TA4OUT/U (io), 21 P7_7/TA3IN (io), 22 P7_6/TA3OUT (io), 23 P7_5/TA2IN/~{W} (io), 24 P7_4/TA2OUT/W (io), 25 P7_3/~{CTS}2/~{RTS}2/TA1IN/~{V}/TxD1 (io), 26 P7_2/CLK2/TA1OUT/V/RxD1 (io), 27 P7_1/RxD2/SCL2/TA0IN/CLK1 (io), 28 P7_0/TxD2/TA0OUT/SDA2/~{CTS}1/~{RTS}1/~{CTS}0/CLKS1 (io), 29 P6_7/TxD1 (io), 30 P6_6/RxD1 (io), 31 P6_5/CLK1 (io), 32 P6_4/~{CTS}1/~{RTS}1/~{CTS}0/CLKS1 (io), 33 P1_7/~{INT}5/IDU (io), 34 P1_6/~{INT}4/IDW (io), 35 P1_5/~{INT}3/~{ADTRG}/IDV (io), 36 P10_7/~{KI}3/AN_7 (io), 37 P10_6/~{KI}2/AN_6 (io), 38 P10_5/~{KI}1/AN_5 (io), 39 P10_4/~{KI}0/AN_4 (io), 40 P10_3/AN_3 (io), 41 P10_2/AN_2 (io), 42 P10_1/AN_1 (io)
part B pins: 1 AVSS (power), 4 AVCC (power), 12 VSS (power), 14 VCC (power)

## M30263M6A-XXXFP
designator U?
Flash Memory M16C/Tiny Series, 26A Group MCU, 48K ROM, 2K RAM, 42-pin SSOP; Note: Set bits PACR2 to PACR0 in PACR register.  If PACR register isn't set up, input & output function of some pins disabled.; Published: 28-Aug-2009; DatasheetVersion: Rev.2.00, Feb-2007; PackageVersion: Sep-2005; PackageReference: PRSP0042GA-B; Publisher: Altium Limited; PackageDescription: 42-Pin Plastic Shrink SOP, 17.5 x 8.4 mm Body, 0.8 mm Pitch; Code_JEITA: P-SSOP42-8.4x17.5-0.80; ComponentLink1Description: Manufacturer Link; ComponentLink1URL: http://sg.renesas.com/fmwk.jsp?cnt=m16c_family_landing.jsp&fp=/products/mpumcu/m16c_family/; ComponentLink2Description: Datasheet; ComponentLink2URL: http://documentation.renesas.com/eng/products/mpumcu/rej09b0202_16c26ahm.pdf; ComponentLink3Description: Packaging Specification; ComponentLink3URL: http://sg.renesas.com/media/products/common_info/package/pdf/ic/code/prsp0042ga_b.pdf
footprint PRSP0042GA-B_N (SOP, 42-Leads, Body 17.5x8.4mm, Pitch 0.8mm, IPC Medium Density)
footprint PRSP0042GA-B_L (SOP, 42-Leads, Body 17.5x8.4mm, Pitch 0.8mm, IPC High Density)
footprint PRSP0042GA-B_M (SOP, 42-Leads, Body 17.5x8.4mm, Pitch 0.8mm, IPC Low Density)
part A pins: 2 P10_0/AN_0 (io), 3 VREF (in), 5 P9_1/TB1IN/AN3_1 (io), 6 P9_0/TB0IN/AN3_0/CLKOUT (io), 7 CNVSS (in), 8 P8_7/XCIN (io), 9 P8_6/XCOUT (io), 10 ~{RESET} (in), 11 XOUT (out), 13 XIN (in), 15 P8_5/~{NMI}/~{SD} (io), 16 P8_4/~{INT}2/ZP (io), 17 P8_3/~{INT}1 (io), 18 P8_2/~{INT}0 (io), 19 P8_1/TA4IN/~{U} (io), 20 P8_0/TA4OUT/U (io), 21 P7_7/TA3IN (io), 22 P7_6/TA3OUT (io), 23 P7_5/TA2IN/~{W} (io), 24 P7_4/TA2OUT/W (io), 25 P7_3/~{CTS}2/~{RTS}2/TA1IN/~{V}/TxD1 (io), 26 P7_2/CLK2/TA1OUT/V/RxD1 (io), 27 P7_1/RxD2/SCL2/TA0IN/CLK1 (io), 28 P7_0/TxD2/TA0OUT/SDA2/~{CTS}1/~{RTS}1/~{CTS}0/CLKS1 (io), 29 P6_7/TxD1 (io), 30 P6_6/RxD1 (io), 31 P6_5/CLK1 (io), 32 P6_4/~{CTS}1/~{RTS}1/~{CTS}0/CLKS1 (io), 33 P1_7/~{INT}5/IDU (io), 34 P1_6/~{INT}4/IDW (io), 35 P1_5/~{INT}3/~{ADTRG}/IDV (io), 36 P10_7/~{KI}3/AN_7 (io), 37 P10_6/~{KI}2/AN_6 (io), 38 P10_5/~{KI}1/AN_5 (io), 39 P10_4/~{KI}0/AN_4 (io), 40 P10_3/AN_3 (io), 41 P10_2/AN_2 (io), 42 P10_1/AN_1 (io)
part B pins: 1 AVSS (power), 4 AVCC (power), 12 VSS (power), 14 VCC (power)

## M30263M8A-XXXFP
designator U?
Flash Memory M16C/Tiny Series, 26A Group MCU, 64K ROM, 2K RAM, 42-pin SSOP; Note: Set bits PACR2 to PACR0 in PACR register.  If PACR register isn't set up, input & output function of some pins disabled.; Published: 28-Aug-2009; DatasheetVersion: Rev.2.00, Feb-2007; PackageVersion: Sep-2005; PackageReference: PRSP0042GA-B; Publisher: Altium Limited; PackageDescription: 42-Pin Plastic Shrink SOP, 17.5 x 8.4 mm Body, 0.8 mm Pitch; Code_JEITA: P-SSOP42-8.4x17.5-0.80; ComponentLink1Description: Manufacturer Link; ComponentLink1URL: http://sg.renesas.com/fmwk.jsp?cnt=m16c_family_landing.jsp&fp=/products/mpumcu/m16c_family/; ComponentLink2Description: Datasheet; ComponentLink2URL: http://documentation.renesas.com/eng/products/mpumcu/rej09b0202_16c26ahm.pdf; ComponentLink3Description: Packaging Specification; ComponentLink3URL: http://sg.renesas.com/media/products/common_info/package/pdf/ic/code/prsp0042ga_b.pdf
footprint PRSP0042GA-B_N (SOP, 42-Leads, Body 17.5x8.4mm, Pitch 0.8mm, IPC Medium Density)
footprint PRSP0042GA-B_L (SOP, 42-Leads, Body 17.5x8.4mm, Pitch 0.8mm, IPC High Density)
footprint PRSP0042GA-B_M (SOP, 42-Leads, Body 17.5x8.4mm, Pitch 0.8mm, IPC Low Density)
part A pins: 2 P10_0/AN_0 (io), 3 VREF (in), 5 P9_1/TB1IN/AN3_1 (io), 6 P9_0/TB0IN/AN3_0/CLKOUT (io), 7 CNVSS (in), 8 P8_7/XCIN (io), 9 P8_6/XCOUT (io), 10 ~{RESET} (in), 11 XOUT (out), 13 XIN (in), 15 P8_5/~{NMI}/~{SD} (io), 16 P8_4/~{INT}2/ZP (io), 17 P8_3/~{INT}1 (io), 18 P8_2/~{INT}0 (io), 19 P8_1/TA4IN/~{U} (io), 20 P8_0/TA4OUT/U (io), 21 P7_7/TA3IN (io), 22 P7_6/TA3OUT (io), 23 P7_5/TA2IN/~{W} (io), 24 P7_4/TA2OUT/W (io), 25 P7_3/~{CTS}2/~{RTS}2/TA1IN/~{V}/TxD1 (io), 26 P7_2/CLK2/TA1OUT/V/RxD1 (io), 27 P7_1/RxD2/SCL2/TA0IN/CLK1 (io), 28 P7_0/TxD2/TA0OUT/SDA2/~{CTS}1/~{RTS}1/~{CTS}0/CLKS1 (io), 29 P6_7/TxD1 (io), 30 P6_6/RxD1 (io), 31 P6_5/CLK1 (io), 32 P6_4/~{CTS}1/~{RTS}1/~{CTS}0/CLKS1 (io), 33 P1_7/~{INT}5/IDU (io), 34 P1_6/~{INT}4/IDW (io), 35 P1_5/~{INT}3/~{ADTRG}/IDV (io), 36 P10_7/~{KI}3/AN_7 (io), 37 P10_6/~{KI}2/AN_6 (io), 38 P10_5/~{KI}1/AN_5 (io), 39 P10_4/~{KI}0/AN_4 (io), 40 P10_3/AN_3 (io), 41 P10_2/AN_2 (io), 42 P10_1/AN_1 (io)
part B pins: 1 AVSS (power), 4 AVCC (power), 12 VSS (power), 14 VCC (power)

## M30280F6HP
designator U?
Flash Memory M16C/Tiny Series, 28 Group MCU, 48K + 4K ROM, 8K RAM, 80-pin LQFP; Published: 28-Aug-2009; DatasheetVersion: Rev.2.00, Jan-2007; PackageVersion: Sep-2005; PackageReference: PLQP0080KB-A; Publisher: Altium Limited; PackageDescription: 80-Pin Plastic Low Profile QFP, 12 x 12 x 1.4 mm Body, 0.5 mm Pitch; Code_JEITA: P-LQFP80-12x12-0.50; Code_IPC: SQFP50P1400X1400-80; ComponentLink1Description: Manufacturer Link; ComponentLink1URL: http://sg.renesas.com/fmwk.jsp?cnt=m16c_family_landing.jsp&fp=/products/mpumcu/m16c_family/; ComponentLink2Description: Datasheet; ComponentLink2URL: http://documentation.renesas.com/eng/products/mpumcu/rej09b0047_16c28hm.pdf; ComponentLink3Description: Packaging Specification; ComponentLink3URL: http://sg.renesas.com/media/products/common_info/package/pdf/ic/code/plqp0080kb_a.pdf
footprint PLQP0080KB-A_N (Shrink QFP, 80-Leads, Body 12x12mm, Pitch 0.5mm, IPC Medium Density)
footprint PLQP0080KB-A_L (Shrink QFP, 80-Leads, Body 12x12mm, Pitch 0.5mm, IPC High Density)
footprint PLQP0080KB-A_M (Shrink QFP, 80-Leads, Body 12x12mm, Pitch 0.5mm, IPC Low Density)
part A pins: 1 P9_5/AN2_5/CLK4 (io), 2 P9_3/AN2_4 (io), 3 P9_2/TB2IN (io), 4 P9_1/TB1IN (io), 5 P9_0/TB0IN (io), 6 CNVSS (in), 7 P8_7/XCIN (io), 8 P8_6/XCOUT (io), 9 ~{RESET} (in), 10 XOUT (out), 12 XIN (in), 14 P8_5/~{NMI}/~{SD} (io), 15 P8_4/~{INT}2/ZP (io), 16 P8_3/~{INT}1 (io), 17 P8_2/~{INT}0 (io), 18 P8_1/TA4IN/~{U} (io), 19 P8_0/TA4OUT/U (io), 20 P7_7/TA3IN (io), 21 P7_6/TA3OUT (io), 22 P7_5/TA2IN/~{W} (io), 23 P7_4/TA2OUT/W (io), 24 P7_3/~{CTS}2/~{RTS}2/TA1IN/~{V}/TXD1 (io), 25 P7_2/CLK2/TA1OUT/V/RxD1 (io), 26 P7_1/RxD2/SCL2/TA0IN/CLK1 (io), 27 P7_0/TxD2/TA0OUT/SDA2/~{CTS}1/~{RTS}1/~{CTS}0/CLKS1 (io), 28 P6_7/TxD1 (io), 29 P6_6/RxD1 (io), 30 P6_5/CLK1 (io), 31 P6_4/~{CTS}1/~{RTS}1/~{CTS}0/CLKS1 (io), 32 P3_7 (io), 33 P3_6 (io), 34 P3_5 (io), 35 P3_4 (io), 36 P3_3 (io), 37 P3_2/SOUT3 (io), 38 P3_1/SIN3 (io), 39 P3_0/CLK3 (io), 40 P6_3/TxD0 (io), 41 P6_2/RxD0 (io), 42 P6_1/CLK0 (io), 43 P6_0/~{CTS}0/~{RTS}0 (io), 44 P2_7/OUTC1_7/INPC1_7 (io), 45 P2_6/OUTC1_6/INPC1_6 (io), 46 P2_5/OUTC1_5/INPC1_5 (io), 47 P2_4/OUTC1_4/INPC1_4 (io), 48 P2_3/OUTC1_3/INPC1_3 (io), 49 P2_2/OUTC1_2/INPC1_2 (io), 50 P2_1/OUTC1_1/INPC1_1/SCLMM (io), 51 P2_0/OUTC1_0/INPC1_0/SDAMM (io), 52 P1_7/~{INT}5/INPC1_7/IDU (io), 53 P1_6/~{INT}4/IDW (io), 54 P1_5/~{INT}3/~{ADTRG}/IDV (io), 55 P1_4 (io), 56 P1_3/AN2_3 (io), 57 P1_2/AN2_2 (io), 58 P1_1/AN2_1 (io), 59 P1_0/AN2_0 (io), 60 P0_7/AN0_7 (io), 61 P0_6/AN0_6 (io), 62 P0_5/AN0_5 (io), 63 P0_4/AN0_4 (io), 64 P0_3/AN0_3 (io), 65 P0_2/AN0_2 (io), 66 P0_1/AN0_1 (io), 67 P0_0/AN0_0 (io), 68 P10_7/~{KI}3/AN_7 (io), 69 P10_6/~{KI}2/AN_6 (io), 70 P10_5/~{KI}1/AN_5 (io), 71 P10_4/~{KI}0/AN_4 (io), 72 P10_3/AN_3 (io), 73 P10_2/AN_2 (io), 74 P10_1/AN_1 (io), 76 P10_0/AN_0 (io), 77 VREF (in), 79 P9_7/AN2_7/SIN4 (io), 80 P9_6/AN2_6/SOUT4 (io)
part B pins: 11 VSS (power), 13 VCC (power), 75 AVSS (power), 78 AVCC (power)

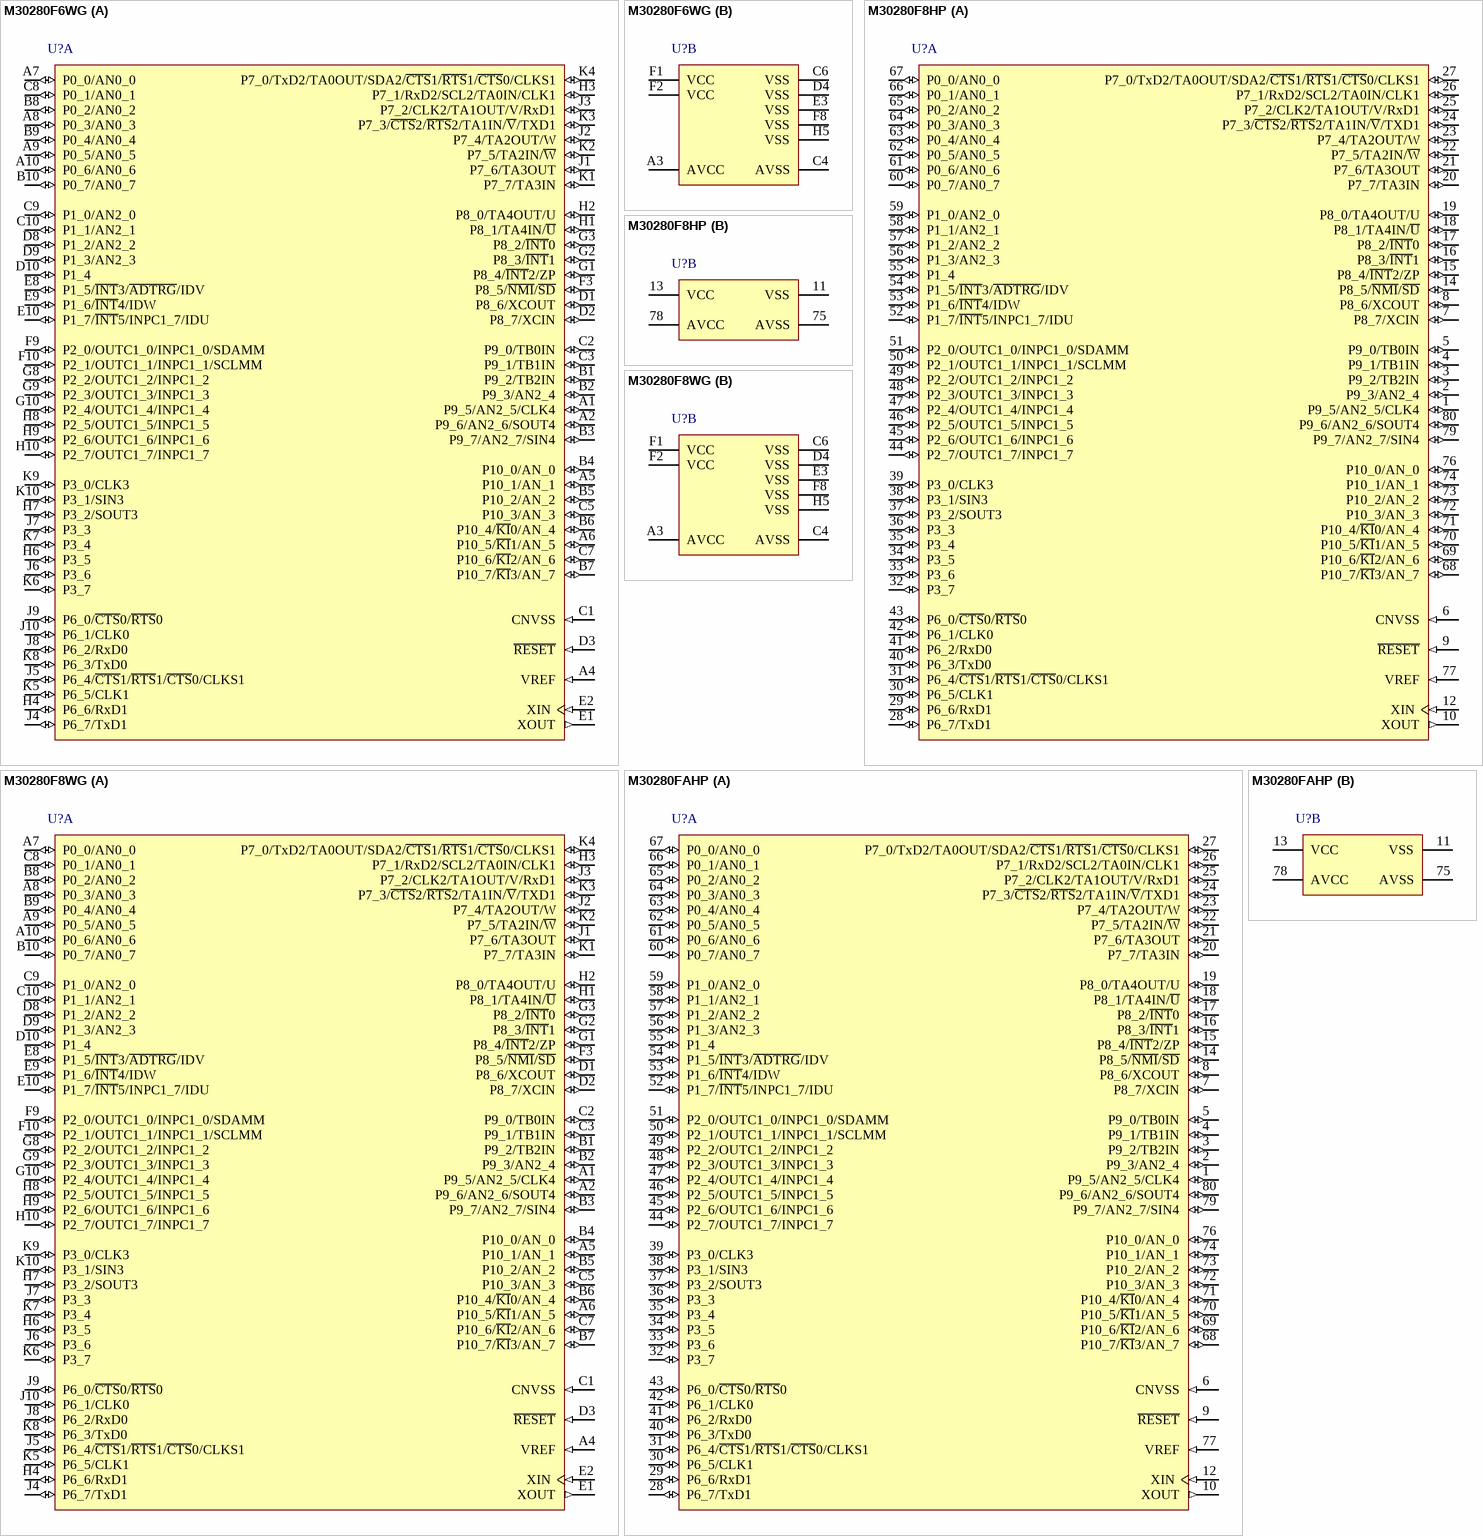
[diagram p42: symbols M30280F6WG to M30280FAHP]

## M30280F6WG
designator U?
Flash Memory M16C/Tiny Series, 28 Group MCU, 48K + 4K ROM, 8K RAM, 80-pin BGA; Published: 28-Aug-2009; DatasheetVersion: Rev.2.00, Jan-2007; PackageVersion: Sep-2005; PackageReference: PTLG0085JB-A; Publisher: Altium Limited; PackageDescription: 85-Ball Plastic Thin Fine-Pitch BGA, 7 x 7 mm Body, 0.65 mm Pitch; Code_JEITA: P-TFLGA85-7x7-0.65; ComponentLink1Description: Manufacturer Link; ComponentLink1URL: http://sg.renesas.com/fmwk.jsp?cnt=m16c_family_landing.jsp&fp=/products/mpumcu/m16c_family/; ComponentLink2Description: Datasheet; ComponentLink2URL: http://documentation.renesas.com/eng/products/mpumcu/rej09b0047_16c28hm.pdf; ComponentLink3Description: Packaging Specification; ComponentLink3URL: http://sg.renesas.com/media/products/common_info/package/pdf/ic/code/ptlg0085jb_a.pdf
footprint PTLG0085JB-A (BGA, 85-Leads, Body 7x7mm, Pitch 0.65mm)
part A pins: A1 P9_5/AN2_5/CLK4 (io), A2 P9_6/AN2_6/SOUT4 (io), A4 VREF (in), A5 P10_1/AN_1 (io), A6 P10_5/~{KI}1/AN_5 (io), A7 P0_0/AN0_0 (io), A8 P0_3/AN0_3 (io), A9 P0_5/AN0_5 (io), A10 P0_6/AN0_6 (io), B1 P9_2/TB2IN (io), B2 P9_3/AN2_4 (io), B3 P9_7/AN2_7/SIN4 (io), B4 P10_0/AN_0 (io), B5 P10_2/AN_2 (io), B6 P10_4/~{KI}0/AN_4 (io), B7 P10_7/~{KI}3/AN_7 (io), B8 P0_2/AN0_2 (io), B9 P0_4/AN0_4 (io), B10 P0_7/AN0_7 (io), C1 CNVSS (in), C2 P9_0/TB0IN (io), C3 P9_1/TB1IN (io), C5 P10_3/AN_3 (io), C7 P10_6/~{KI}2/AN_6 (io), C8 P0_1/AN0_1 (io), C9 P1_0/AN2_0 (io), C10 P1_1/AN2_1 (io), D1 P8_6/XCOUT (io), D2 P8_7/XCIN (io), D3 ~{RESET} (in), D8 P1_2/AN2_2 (io), D9 P1_3/AN2_3 (io), D10 P1_4 (io), E1 XOUT (out), E2 XIN (in), E8 P1_5/~{INT}3/~{ADTRG}/IDV (io), E9 P1_6/~{INT}4/IDW (io), E10 P1_7/~{INT}5/INPC1_7/IDU (io), F3 P8_5/~{NMI}/~{SD} (io), F9 P2_0/OUTC1_0/INPC1_0/SDAMM (io), F10 P2_1/OUTC1_1/INPC1_1/SCLMM (io), G1 P8_4/~{INT}2/ZP (io), G2 P8_3/~{INT}1 (io), G3 P8_2/~{INT}0 (io), G8 P2_2/OUTC1_2/INPC1_2 (io), G9 P2_3/OUTC1_3/INPC1_3 (io), G10 P2_4/OUTC1_4/INPC1_4 (io), H1 P8_1/TA4IN/~{U} (io), H2 P8_0/TA4OUT/U (io), H3 P7_1/RxD2/SCL2/TA0IN/CLK1 (io), H4 P6_6/RxD1 (io), H6 P3_5 (io), H7 P3_2/SOUT3 (io), H8 P2_5/OUTC1_5/INPC1_5 (io), H9 P2_6/OUTC1_6/INPC1_6 (io), H10 P2_7/OUTC1_7/INPC1_7 (io), J1 P7_6/TA3OUT (io), J2 P7_4/TA2OUT/W (io), J3 P7_2/CLK2/TA1OUT/V/RxD1 (io), J4 P6_7/TxD1 (io), J5 P6_4/~{CTS}1/~{RTS}1/~{CTS}0/CLKS1 (io), J6 P3_6 (io), J7 P3_3 (io), J8 P6_2/RxD0 (io), J9 P6_0/~{CTS}0/~{RTS}0 (io), J10 P6_1/CLK0 (io), K1 P7_7/TA3IN (io), K2 P7_5/TA2IN/~{W} (io), K3 P7_3/~{CTS}2/~{RTS}2/TA1IN/~{V}/TXD1 (io), K4 P7_0/TxD2/TA0OUT/SDA2/~{CTS}1/~{RTS}1/~{CTS}0/CLKS1 (io), K5 P6_5/CLK1 (io), K6 P3_7 (io), K7 P3_4 (io), K8 P6_3/TxD0 (io), K9 P3_0/CLK3 (io), K10 P3_1/SIN3 (io)
part B pins: A3 AVCC (power), C4 AVSS (power), C6 VSS (power), D4 VSS (power), E3 VSS (power), F1 VCC (power), F2 VCC (power), F8 VSS (power), H5 VSS (power)

## M30280F8HP
designator U?
Flash Memory M16C/Tiny Series, 28 Group MCU, 64K + 4K ROM, 8K RAM, 80-pin LQFP; Published: 28-Aug-2009; DatasheetVersion: Rev.2.00, Jan-2007; PackageVersion: Sep-2005; PackageReference: PLQP0080KB-A; Publisher: Altium Limited; PackageDescription: 80-Pin Plastic Low Profile QFP, 12 x 12 x 1.4 mm Body, 0.5 mm Pitch; Code_JEITA: P-LQFP80-12x12-0.50; Code_IPC: SQFP50P1400X1400-80; ComponentLink1Description: Manufacturer Link; ComponentLink1URL: http://sg.renesas.com/fmwk.jsp?cnt=m16c_family_landing.jsp&fp=/products/mpumcu/m16c_family/; ComponentLink2Description: Datasheet; ComponentLink2URL: http://documentation.renesas.com/eng/products/mpumcu/rej09b0047_16c28hm.pdf; ComponentLink3Description: Packaging Specification; ComponentLink3URL: http://sg.renesas.com/media/products/common_info/package/pdf/ic/code/plqp0080kb_a.pdf
footprint PLQP0080KB-A_N (Shrink QFP, 80-Leads, Body 12x12mm, Pitch 0.5mm, IPC Medium Density)
footprint PLQP0080KB-A_L (Shrink QFP, 80-Leads, Body 12x12mm, Pitch 0.5mm, IPC High Density)
footprint PLQP0080KB-A_M (Shrink QFP, 80-Leads, Body 12x12mm, Pitch 0.5mm, IPC Low Density)
part A pins: 1 P9_5/AN2_5/CLK4 (io), 2 P9_3/AN2_4 (io), 3 P9_2/TB2IN (io), 4 P9_1/TB1IN (io), 5 P9_0/TB0IN (io), 6 CNVSS (in), 7 P8_7/XCIN (io), 8 P8_6/XCOUT (io), 9 ~{RESET} (in), 10 XOUT (out), 12 XIN (in), 14 P8_5/~{NMI}/~{SD} (io), 15 P8_4/~{INT}2/ZP (io), 16 P8_3/~{INT}1 (io), 17 P8_2/~{INT}0 (io), 18 P8_1/TA4IN/~{U} (io), 19 P8_0/TA4OUT/U (io), 20 P7_7/TA3IN (io), 21 P7_6/TA3OUT (io), 22 P7_5/TA2IN/~{W} (io), 23 P7_4/TA2OUT/W (io), 24 P7_3/~{CTS}2/~{RTS}2/TA1IN/~{V}/TXD1 (io), 25 P7_2/CLK2/TA1OUT/V/RxD1 (io), 26 P7_1/RxD2/SCL2/TA0IN/CLK1 (io), 27 P7_0/TxD2/TA0OUT/SDA2/~{CTS}1/~{RTS}1/~{CTS}0/CLKS1 (io), 28 P6_7/TxD1 (io), 29 P6_6/RxD1 (io), 30 P6_5/CLK1 (io), 31 P6_4/~{CTS}1/~{RTS}1/~{CTS}0/CLKS1 (io), 32 P3_7 (io), 33 P3_6 (io), 34 P3_5 (io), 35 P3_4 (io), 36 P3_3 (io), 37 P3_2/SOUT3 (io), 38 P3_1/SIN3 (io), 39 P3_0/CLK3 (io), 40 P6_3/TxD0 (io), 41 P6_2/RxD0 (io), 42 P6_1/CLK0 (io), 43 P6_0/~{CTS}0/~{RTS}0 (io), 44 P2_7/OUTC1_7/INPC1_7 (io), 45 P2_6/OUTC1_6/INPC1_6 (io), 46 P2_5/OUTC1_5/INPC1_5 (io), 47 P2_4/OUTC1_4/INPC1_4 (io), 48 P2_3/OUTC1_3/INPC1_3 (io), 49 P2_2/OUTC1_2/INPC1_2 (io), 50 P2_1/OUTC1_1/INPC1_1/SCLMM (io), 51 P2_0/OUTC1_0/INPC1_0/SDAMM (io), 52 P1_7/~{INT}5/INPC1_7/IDU (io), 53 P1_6/~{INT}4/IDW (io), 54 P1_5/~{INT}3/~{ADTRG}/IDV (io), 55 P1_4 (io), 56 P1_3/AN2_3 (io), 57 P1_2/AN2_2 (io), 58 P1_1/AN2_1 (io), 59 P1_0/AN2_0 (io), 60 P0_7/AN0_7 (io), 61 P0_6/AN0_6 (io), 62 P0_5/AN0_5 (io), 63 P0_4/AN0_4 (io), 64 P0_3/AN0_3 (io), 65 P0_2/AN0_2 (io), 66 P0_1/AN0_1 (io), 67 P0_0/AN0_0 (io), 68 P10_7/~{KI}3/AN_7 (io), 69 P10_6/~{KI}2/AN_6 (io), 70 P10_5/~{KI}1/AN_5 (io), 71 P10_4/~{KI}0/AN_4 (io), 72 P10_3/AN_3 (io), 73 P10_2/AN_2 (io), 74 P10_1/AN_1 (io), 76 P10_0/AN_0 (io), 77 VREF (in), 79 P9_7/AN2_7/SIN4 (io), 80 P9_6/AN2_6/SOUT4 (io)
part B pins: 11 VSS (power), 13 VCC (power), 75 AVSS (power), 78 AVCC (power)

## M30280F8WG
designator U?
Flash Memory M16C/Tiny Series, 28 Group MCU, 64K + 4K ROM, 8K RAM, 80-pin BGA; Published: 28-Aug-2009; DatasheetVersion: Rev.2.00, Jan-2007; PackageVersion: Sep-2005; PackageReference: PTLG0085JB-A; Publisher: Altium Limited; PackageDescription: 85-Ball Plastic Thin Fine-Pitch BGA, 7 x 7 mm Body, 0.65 mm Pitch; Code_JEITA: P-TFLGA85-7x7-0.65; ComponentLink1Description: Manufacturer Link; ComponentLink1URL: http://sg.renesas.com/fmwk.jsp?cnt=m16c_family_landing.jsp&fp=/products/mpumcu/m16c_family/; ComponentLink2Description: Datasheet; ComponentLink2URL: http://documentation.renesas.com/eng/products/mpumcu/rej09b0047_16c28hm.pdf; ComponentLink3Description: Packaging Specification; ComponentLink3URL: http://sg.renesas.com/media/products/common_info/package/pdf/ic/code/ptlg0085jb_a.pdf
footprint PTLG0085JB-A (BGA, 85-Leads, Body 7x7mm, Pitch 0.65mm)
part A pins: A1 P9_5/AN2_5/CLK4 (io), A2 P9_6/AN2_6/SOUT4 (io), A4 VREF (in), A5 P10_1/AN_1 (io), A6 P10_5/~{KI}1/AN_5 (io), A7 P0_0/AN0_0 (io), A8 P0_3/AN0_3 (io), A9 P0_5/AN0_5 (io), A10 P0_6/AN0_6 (io), B1 P9_2/TB2IN (io), B2 P9_3/AN2_4 (io), B3 P9_7/AN2_7/SIN4 (io), B4 P10_0/AN_0 (io), B5 P10_2/AN_2 (io), B6 P10_4/~{KI}0/AN_4 (io), B7 P10_7/~{KI}3/AN_7 (io), B8 P0_2/AN0_2 (io), B9 P0_4/AN0_4 (io), B10 P0_7/AN0_7 (io), C1 CNVSS (in), C2 P9_0/TB0IN (io), C3 P9_1/TB1IN (io), C5 P10_3/AN_3 (io), C7 P10_6/~{KI}2/AN_6 (io), C8 P0_1/AN0_1 (io), C9 P1_0/AN2_0 (io), C10 P1_1/AN2_1 (io), D1 P8_6/XCOUT (io), D2 P8_7/XCIN (io), D3 ~{RESET} (in), D8 P1_2/AN2_2 (io), D9 P1_3/AN2_3 (io), D10 P1_4 (io), E1 XOUT (out), E2 XIN (in), E8 P1_5/~{INT}3/~{ADTRG}/IDV (io), E9 P1_6/~{INT}4/IDW (io), E10 P1_7/~{INT}5/INPC1_7/IDU (io), F3 P8_5/~{NMI}/~{SD} (io), F9 P2_0/OUTC1_0/INPC1_0/SDAMM (io), F10 P2_1/OUTC1_1/INPC1_1/SCLMM (io), G1 P8_4/~{INT}2/ZP (io), G2 P8_3/~{INT}1 (io), G3 P8_2/~{INT}0 (io), G8 P2_2/OUTC1_2/INPC1_2 (io), G9 P2_3/OUTC1_3/INPC1_3 (io), G10 P2_4/OUTC1_4/INPC1_4 (io), H1 P8_1/TA4IN/~{U} (io), H2 P8_0/TA4OUT/U (io), H3 P7_1/RxD2/SCL2/TA0IN/CLK1 (io), H4 P6_6/RxD1 (io), H6 P3_5 (io), H7 P3_2/SOUT3 (io), H8 P2_5/OUTC1_5/INPC1_5 (io), H9 P2_6/OUTC1_6/INPC1_6 (io), H10 P2_7/OUTC1_7/INPC1_7 (io), J1 P7_6/TA3OUT (io), J2 P7_4/TA2OUT/W (io), J3 P7_2/CLK2/TA1OUT/V/RxD1 (io), J4 P6_7/TxD1 (io), J5 P6_4/~{CTS}1/~{RTS}1/~{CTS}0/CLKS1 (io), J6 P3_6 (io), J7 P3_3 (io), J8 P6_2/RxD0 (io), J9 P6_0/~{CTS}0/~{RTS}0 (io), J10 P6_1/CLK0 (io), K1 P7_7/TA3IN (io), K2 P7_5/TA2IN/~{W} (io), K3 P7_3/~{CTS}2/~{RTS}2/TA1IN/~{V}/TXD1 (io), K4 P7_0/TxD2/TA0OUT/SDA2/~{CTS}1/~{RTS}1/~{CTS}0/CLKS1 (io), K5 P6_5/CLK1 (io), K6 P3_7 (io), K7 P3_4 (io), K8 P6_3/TxD0 (io), K9 P3_0/CLK3 (io), K10 P3_1/SIN3 (io)
part B pins: A3 AVCC (power), C4 AVSS (power), C6 VSS (power), D4 VSS (power), E3 VSS (power), F1 VCC (power), F2 VCC (power), F8 VSS (power), H5 VSS (power)

## M30280FAHP
designator U?
Flash Memory M16C/Tiny Series, 28 Group MCU, 96K + 4K ROM, 8K RAM, 80-pin LQFP; Published: 28-Aug-2009; DatasheetVersion: Rev.2.00, Jan-2007; PackageVersion: Sep-2005; PackageReference: PLQP0080KB-A; Publisher: Altium Limited; PackageDescription: 80-Pin Plastic Low Profile QFP, 12 x 12 x 1.4 mm Body, 0.5 mm Pitch; Code_JEITA: P-LQFP80-12x12-0.50; Code_IPC: SQFP50P1400X1400-80; ComponentLink1Description: Manufacturer Link; ComponentLink1URL: http://sg.renesas.com/fmwk.jsp?cnt=m16c_family_landing.jsp&fp=/products/mpumcu/m16c_family/; ComponentLink2Description: Datasheet; ComponentLink2URL: http://documentation.renesas.com/eng/products/mpumcu/rej09b0047_16c28hm.pdf; ComponentLink3Description: Packaging Specification; ComponentLink3URL: http://sg.renesas.com/media/products/common_info/package/pdf/ic/code/plqp0080kb_a.pdf
footprint PLQP0080KB-A_N (Shrink QFP, 80-Leads, Body 12x12mm, Pitch 0.5mm, IPC Medium Density)
footprint PLQP0080KB-A_L (Shrink QFP, 80-Leads, Body 12x12mm, Pitch 0.5mm, IPC High Density)
footprint PLQP0080KB-A_M (Shrink QFP, 80-Leads, Body 12x12mm, Pitch 0.5mm, IPC Low Density)
part A pins: 1 P9_5/AN2_5/CLK4 (io), 2 P9_3/AN2_4 (io), 3 P9_2/TB2IN (io), 4 P9_1/TB1IN (io), 5 P9_0/TB0IN (io), 6 CNVSS (in), 7 P8_7/XCIN (io), 8 P8_6/XCOUT (io), 9 ~{RESET} (in), 10 XOUT (out), 12 XIN (in), 14 P8_5/~{NMI}/~{SD} (io), 15 P8_4/~{INT}2/ZP (io), 16 P8_3/~{INT}1 (io), 17 P8_2/~{INT}0 (io), 18 P8_1/TA4IN/~{U} (io), 19 P8_0/TA4OUT/U (io), 20 P7_7/TA3IN (io), 21 P7_6/TA3OUT (io), 22 P7_5/TA2IN/~{W} (io), 23 P7_4/TA2OUT/W (io), 24 P7_3/~{CTS}2/~{RTS}2/TA1IN/~{V}/TXD1 (io), 25 P7_2/CLK2/TA1OUT/V/RxD1 (io), 26 P7_1/RxD2/SCL2/TA0IN/CLK1 (io), 27 P7_0/TxD2/TA0OUT/SDA2/~{CTS}1/~{RTS}1/~{CTS}0/CLKS1 (io), 28 P6_7/TxD1 (io), 29 P6_6/RxD1 (io), 30 P6_5/CLK1 (io), 31 P6_4/~{CTS}1/~{RTS}1/~{CTS}0/CLKS1 (io), 32 P3_7 (io), 33 P3_6 (io), 34 P3_5 (io), 35 P3_4 (io), 36 P3_3 (io), 37 P3_2/SOUT3 (io), 38 P3_1/SIN3 (io), 39 P3_0/CLK3 (io), 40 P6_3/TxD0 (io), 41 P6_2/RxD0 (io), 42 P6_1/CLK0 (io), 43 P6_0/~{CTS}0/~{RTS}0 (io), 44 P2_7/OUTC1_7/INPC1_7 (io), 45 P2_6/OUTC1_6/INPC1_6 (io), 46 P2_5/OUTC1_5/INPC1_5 (io), 47 P2_4/OUTC1_4/INPC1_4 (io), 48 P2_3/OUTC1_3/INPC1_3 (io), 49 P2_2/OUTC1_2/INPC1_2 (io), 50 P2_1/OUTC1_1/INPC1_1/SCLMM (io), 51 P2_0/OUTC1_0/INPC1_0/SDAMM (io), 52 P1_7/~{INT}5/INPC1_7/IDU (io), 53 P1_6/~{INT}4/IDW (io), 54 P1_5/~{INT}3/~{ADTRG}/IDV (io), 55 P1_4 (io), 56 P1_3/AN2_3 (io), 57 P1_2/AN2_2 (io), 58 P1_1/AN2_1 (io), 59 P1_0/AN2_0 (io), 60 P0_7/AN0_7 (io), 61 P0_6/AN0_6 (io), 62 P0_5/AN0_5 (io), 63 P0_4/AN0_4 (io), 64 P0_3/AN0_3 (io), 65 P0_2/AN0_2 (io), 66 P0_1/AN0_1 (io), 67 P0_0/AN0_0 (io), 68 P10_7/~{KI}3/AN_7 (io), 69 P10_6/~{KI}2/AN_6 (io), 70 P10_5/~{KI}1/AN_5 (io), 71 P10_4/~{KI}0/AN_4 (io), 72 P10_3/AN_3 (io), 73 P10_2/AN_2 (io), 74 P10_1/AN_1 (io), 76 P10_0/AN_0 (io), 77 VREF (in), 79 P9_7/AN2_7/SIN4 (io), 80 P9_6/AN2_6/SOUT4 (io)
part B pins: 11 VSS (power), 13 VCC (power), 75 AVSS (power), 78 AVCC (power)

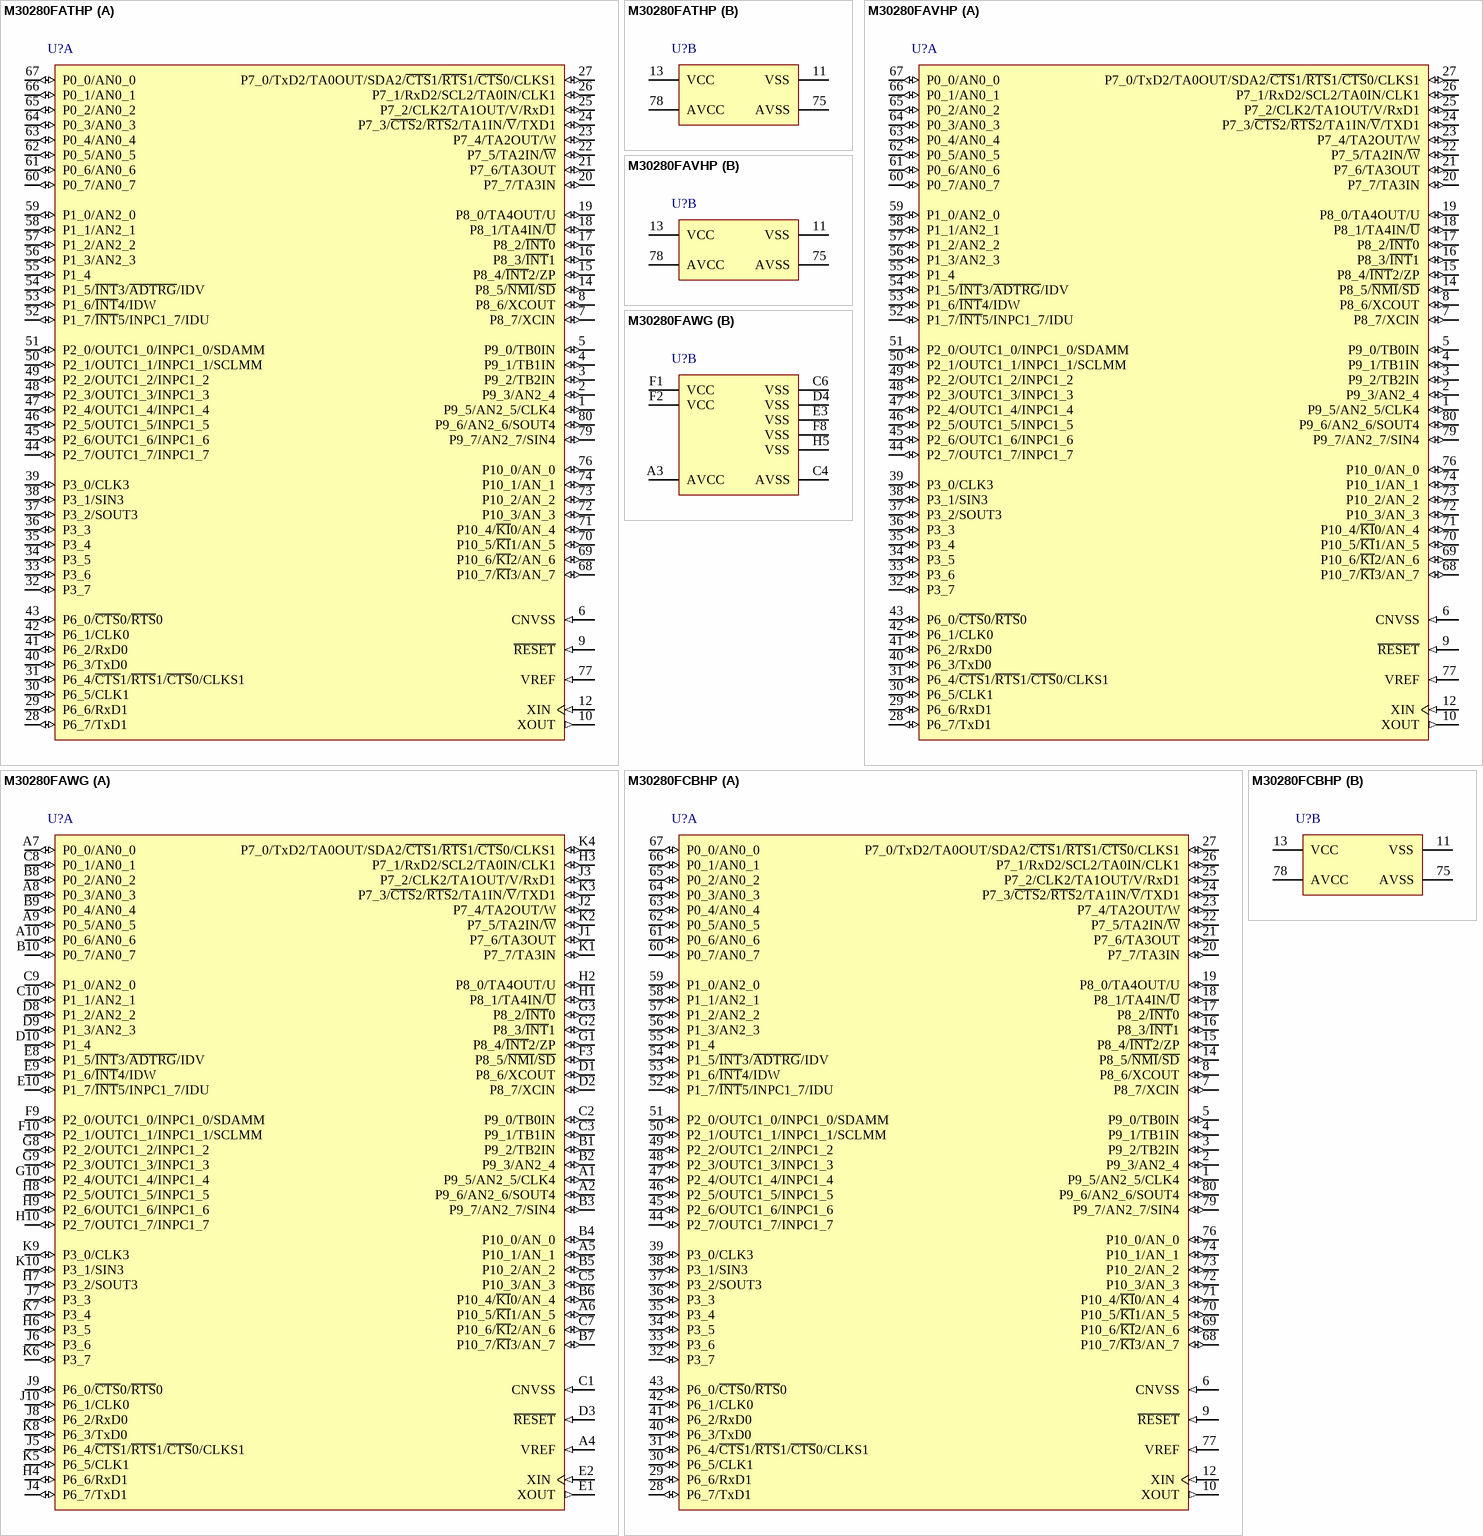
[diagram p43: symbols M30280FATHP to M30280FCBHP]

## M30280FATHP
designator U?
Flash Memory M16C/Tiny Series, 28 Group MCU, 96K + 4K ROM, 8K RAM, 80-pin LQFP, Version T; Published: 28-Aug-2009; DatasheetVersion: Rev.2.00, Jan-2007; PackageVersion: Sep-2005; PackageReference: PLQP0080KB-A; Publisher: Altium Limited; PackageDescription: 80-Pin Plastic Low Profile QFP, 12 x 12 x 1.4 mm Body, 0.5 mm Pitch; Code_JEITA: P-LQFP80-12x12-0.50; Code_IPC: SQFP50P1400X1400-80; ComponentLink1Description: Manufacturer Link; ComponentLink1URL: http://sg.renesas.com/fmwk.jsp?cnt=m16c_family_landing.jsp&fp=/products/mpumcu/m16c_family/; ComponentLink2Description: Datasheet; ComponentLink2URL: http://documentation.renesas.com/eng/products/mpumcu/rej09b0047_16c28hm.pdf; ComponentLink3Description: Packaging Specification; ComponentLink3URL: http://sg.renesas.com/media/products/common_info/package/pdf/ic/code/plqp0080kb_a.pdf
footprint PLQP0080KB-A_N (Shrink QFP, 80-Leads, Body 12x12mm, Pitch 0.5mm, IPC Medium Density)
footprint PLQP0080KB-A_L (Shrink QFP, 80-Leads, Body 12x12mm, Pitch 0.5mm, IPC High Density)
footprint PLQP0080KB-A_M (Shrink QFP, 80-Leads, Body 12x12mm, Pitch 0.5mm, IPC Low Density)
part A pins: 1 P9_5/AN2_5/CLK4 (io), 2 P9_3/AN2_4 (io), 3 P9_2/TB2IN (io), 4 P9_1/TB1IN (io), 5 P9_0/TB0IN (io), 6 CNVSS (in), 7 P8_7/XCIN (io), 8 P8_6/XCOUT (io), 9 ~{RESET} (in), 10 XOUT (out), 12 XIN (in), 14 P8_5/~{NMI}/~{SD} (io), 15 P8_4/~{INT}2/ZP (io), 16 P8_3/~{INT}1 (io), 17 P8_2/~{INT}0 (io), 18 P8_1/TA4IN/~{U} (io), 19 P8_0/TA4OUT/U (io), 20 P7_7/TA3IN (io), 21 P7_6/TA3OUT (io), 22 P7_5/TA2IN/~{W} (io), 23 P7_4/TA2OUT/W (io), 24 P7_3/~{CTS}2/~{RTS}2/TA1IN/~{V}/TXD1 (io), 25 P7_2/CLK2/TA1OUT/V/RxD1 (io), 26 P7_1/RxD2/SCL2/TA0IN/CLK1 (io), 27 P7_0/TxD2/TA0OUT/SDA2/~{CTS}1/~{RTS}1/~{CTS}0/CLKS1 (io), 28 P6_7/TxD1 (io), 29 P6_6/RxD1 (io), 30 P6_5/CLK1 (io), 31 P6_4/~{CTS}1/~{RTS}1/~{CTS}0/CLKS1 (io), 32 P3_7 (io), 33 P3_6 (io), 34 P3_5 (io), 35 P3_4 (io), 36 P3_3 (io), 37 P3_2/SOUT3 (io), 38 P3_1/SIN3 (io), 39 P3_0/CLK3 (io), 40 P6_3/TxD0 (io), 41 P6_2/RxD0 (io), 42 P6_1/CLK0 (io), 43 P6_0/~{CTS}0/~{RTS}0 (io), 44 P2_7/OUTC1_7/INPC1_7 (io), 45 P2_6/OUTC1_6/INPC1_6 (io), 46 P2_5/OUTC1_5/INPC1_5 (io), 47 P2_4/OUTC1_4/INPC1_4 (io), 48 P2_3/OUTC1_3/INPC1_3 (io), 49 P2_2/OUTC1_2/INPC1_2 (io), 50 P2_1/OUTC1_1/INPC1_1/SCLMM (io), 51 P2_0/OUTC1_0/INPC1_0/SDAMM (io), 52 P1_7/~{INT}5/INPC1_7/IDU (io), 53 P1_6/~{INT}4/IDW (io), 54 P1_5/~{INT}3/~{ADTRG}/IDV (io), 55 P1_4 (io), 56 P1_3/AN2_3 (io), 57 P1_2/AN2_2 (io), 58 P1_1/AN2_1 (io), 59 P1_0/AN2_0 (io), 60 P0_7/AN0_7 (io), 61 P0_6/AN0_6 (io), 62 P0_5/AN0_5 (io), 63 P0_4/AN0_4 (io), 64 P0_3/AN0_3 (io), 65 P0_2/AN0_2 (io), 66 P0_1/AN0_1 (io), 67 P0_0/AN0_0 (io), 68 P10_7/~{KI}3/AN_7 (io), 69 P10_6/~{KI}2/AN_6 (io), 70 P10_5/~{KI}1/AN_5 (io), 71 P10_4/~{KI}0/AN_4 (io), 72 P10_3/AN_3 (io), 73 P10_2/AN_2 (io), 74 P10_1/AN_1 (io), 76 P10_0/AN_0 (io), 77 VREF (in), 79 P9_7/AN2_7/SIN4 (io), 80 P9_6/AN2_6/SOUT4 (io)
part B pins: 11 VSS (power), 13 VCC (power), 75 AVSS (power), 78 AVCC (power)

## M30280FAVHP
designator U?
Flash Memory M16C/Tiny Series, 28 Group MCU, 96K + 4K ROM, 8K RAM, 80-pin LQFP, Version V; Published: 28-Aug-2009; DatasheetVersion: Rev.2.00, Jan-2007; PackageVersion: Sep-2005; PackageReference: PLQP0080KB-A; Publisher: Altium Limited; PackageDescription: 80-Pin Plastic Low Profile QFP, 12 x 12 x 1.4 mm Body, 0.5 mm Pitch; Code_JEITA: P-LQFP80-12x12-0.50; Code_IPC: SQFP50P1400X1400-80; ComponentLink1Description: Manufacturer Link; ComponentLink1URL: http://sg.renesas.com/fmwk.jsp?cnt=m16c_family_landing.jsp&fp=/products/mpumcu/m16c_family/; ComponentLink2Description: Datasheet; ComponentLink2URL: http://documentation.renesas.com/eng/products/mpumcu/rej09b0047_16c28hm.pdf; ComponentLink3Description: Packaging Specification; ComponentLink3URL: http://sg.renesas.com/media/products/common_info/package/pdf/ic/code/plqp0080kb_a.pdf
footprint PLQP0080KB-A_N (Shrink QFP, 80-Leads, Body 12x12mm, Pitch 0.5mm, IPC Medium Density)
footprint PLQP0080KB-A_L (Shrink QFP, 80-Leads, Body 12x12mm, Pitch 0.5mm, IPC High Density)
footprint PLQP0080KB-A_M (Shrink QFP, 80-Leads, Body 12x12mm, Pitch 0.5mm, IPC Low Density)
part A pins: 1 P9_5/AN2_5/CLK4 (io), 2 P9_3/AN2_4 (io), 3 P9_2/TB2IN (io), 4 P9_1/TB1IN (io), 5 P9_0/TB0IN (io), 6 CNVSS (in), 7 P8_7/XCIN (io), 8 P8_6/XCOUT (io), 9 ~{RESET} (in), 10 XOUT (out), 12 XIN (in), 14 P8_5/~{NMI}/~{SD} (io), 15 P8_4/~{INT}2/ZP (io), 16 P8_3/~{INT}1 (io), 17 P8_2/~{INT}0 (io), 18 P8_1/TA4IN/~{U} (io), 19 P8_0/TA4OUT/U (io), 20 P7_7/TA3IN (io), 21 P7_6/TA3OUT (io), 22 P7_5/TA2IN/~{W} (io), 23 P7_4/TA2OUT/W (io), 24 P7_3/~{CTS}2/~{RTS}2/TA1IN/~{V}/TXD1 (io), 25 P7_2/CLK2/TA1OUT/V/RxD1 (io), 26 P7_1/RxD2/SCL2/TA0IN/CLK1 (io), 27 P7_0/TxD2/TA0OUT/SDA2/~{CTS}1/~{RTS}1/~{CTS}0/CLKS1 (io), 28 P6_7/TxD1 (io), 29 P6_6/RxD1 (io), 30 P6_5/CLK1 (io), 31 P6_4/~{CTS}1/~{RTS}1/~{CTS}0/CLKS1 (io), 32 P3_7 (io), 33 P3_6 (io), 34 P3_5 (io), 35 P3_4 (io), 36 P3_3 (io), 37 P3_2/SOUT3 (io), 38 P3_1/SIN3 (io), 39 P3_0/CLK3 (io), 40 P6_3/TxD0 (io), 41 P6_2/RxD0 (io), 42 P6_1/CLK0 (io), 43 P6_0/~{CTS}0/~{RTS}0 (io), 44 P2_7/OUTC1_7/INPC1_7 (io), 45 P2_6/OUTC1_6/INPC1_6 (io), 46 P2_5/OUTC1_5/INPC1_5 (io), 47 P2_4/OUTC1_4/INPC1_4 (io), 48 P2_3/OUTC1_3/INPC1_3 (io), 49 P2_2/OUTC1_2/INPC1_2 (io), 50 P2_1/OUTC1_1/INPC1_1/SCLMM (io), 51 P2_0/OUTC1_0/INPC1_0/SDAMM (io), 52 P1_7/~{INT}5/INPC1_7/IDU (io), 53 P1_6/~{INT}4/IDW (io), 54 P1_5/~{INT}3/~{ADTRG}/IDV (io), 55 P1_4 (io), 56 P1_3/AN2_3 (io), 57 P1_2/AN2_2 (io), 58 P1_1/AN2_1 (io), 59 P1_0/AN2_0 (io), 60 P0_7/AN0_7 (io), 61 P0_6/AN0_6 (io), 62 P0_5/AN0_5 (io), 63 P0_4/AN0_4 (io), 64 P0_3/AN0_3 (io), 65 P0_2/AN0_2 (io), 66 P0_1/AN0_1 (io), 67 P0_0/AN0_0 (io), 68 P10_7/~{KI}3/AN_7 (io), 69 P10_6/~{KI}2/AN_6 (io), 70 P10_5/~{KI}1/AN_5 (io), 71 P10_4/~{KI}0/AN_4 (io), 72 P10_3/AN_3 (io), 73 P10_2/AN_2 (io), 74 P10_1/AN_1 (io), 76 P10_0/AN_0 (io), 77 VREF (in), 79 P9_7/AN2_7/SIN4 (io), 80 P9_6/AN2_6/SOUT4 (io)
part B pins: 11 VSS (power), 13 VCC (power), 75 AVSS (power), 78 AVCC (power)